# Altium schematic symbol library dungvh03-CERN_Logic.SchLib: 486 symbols (part 33 of 54)
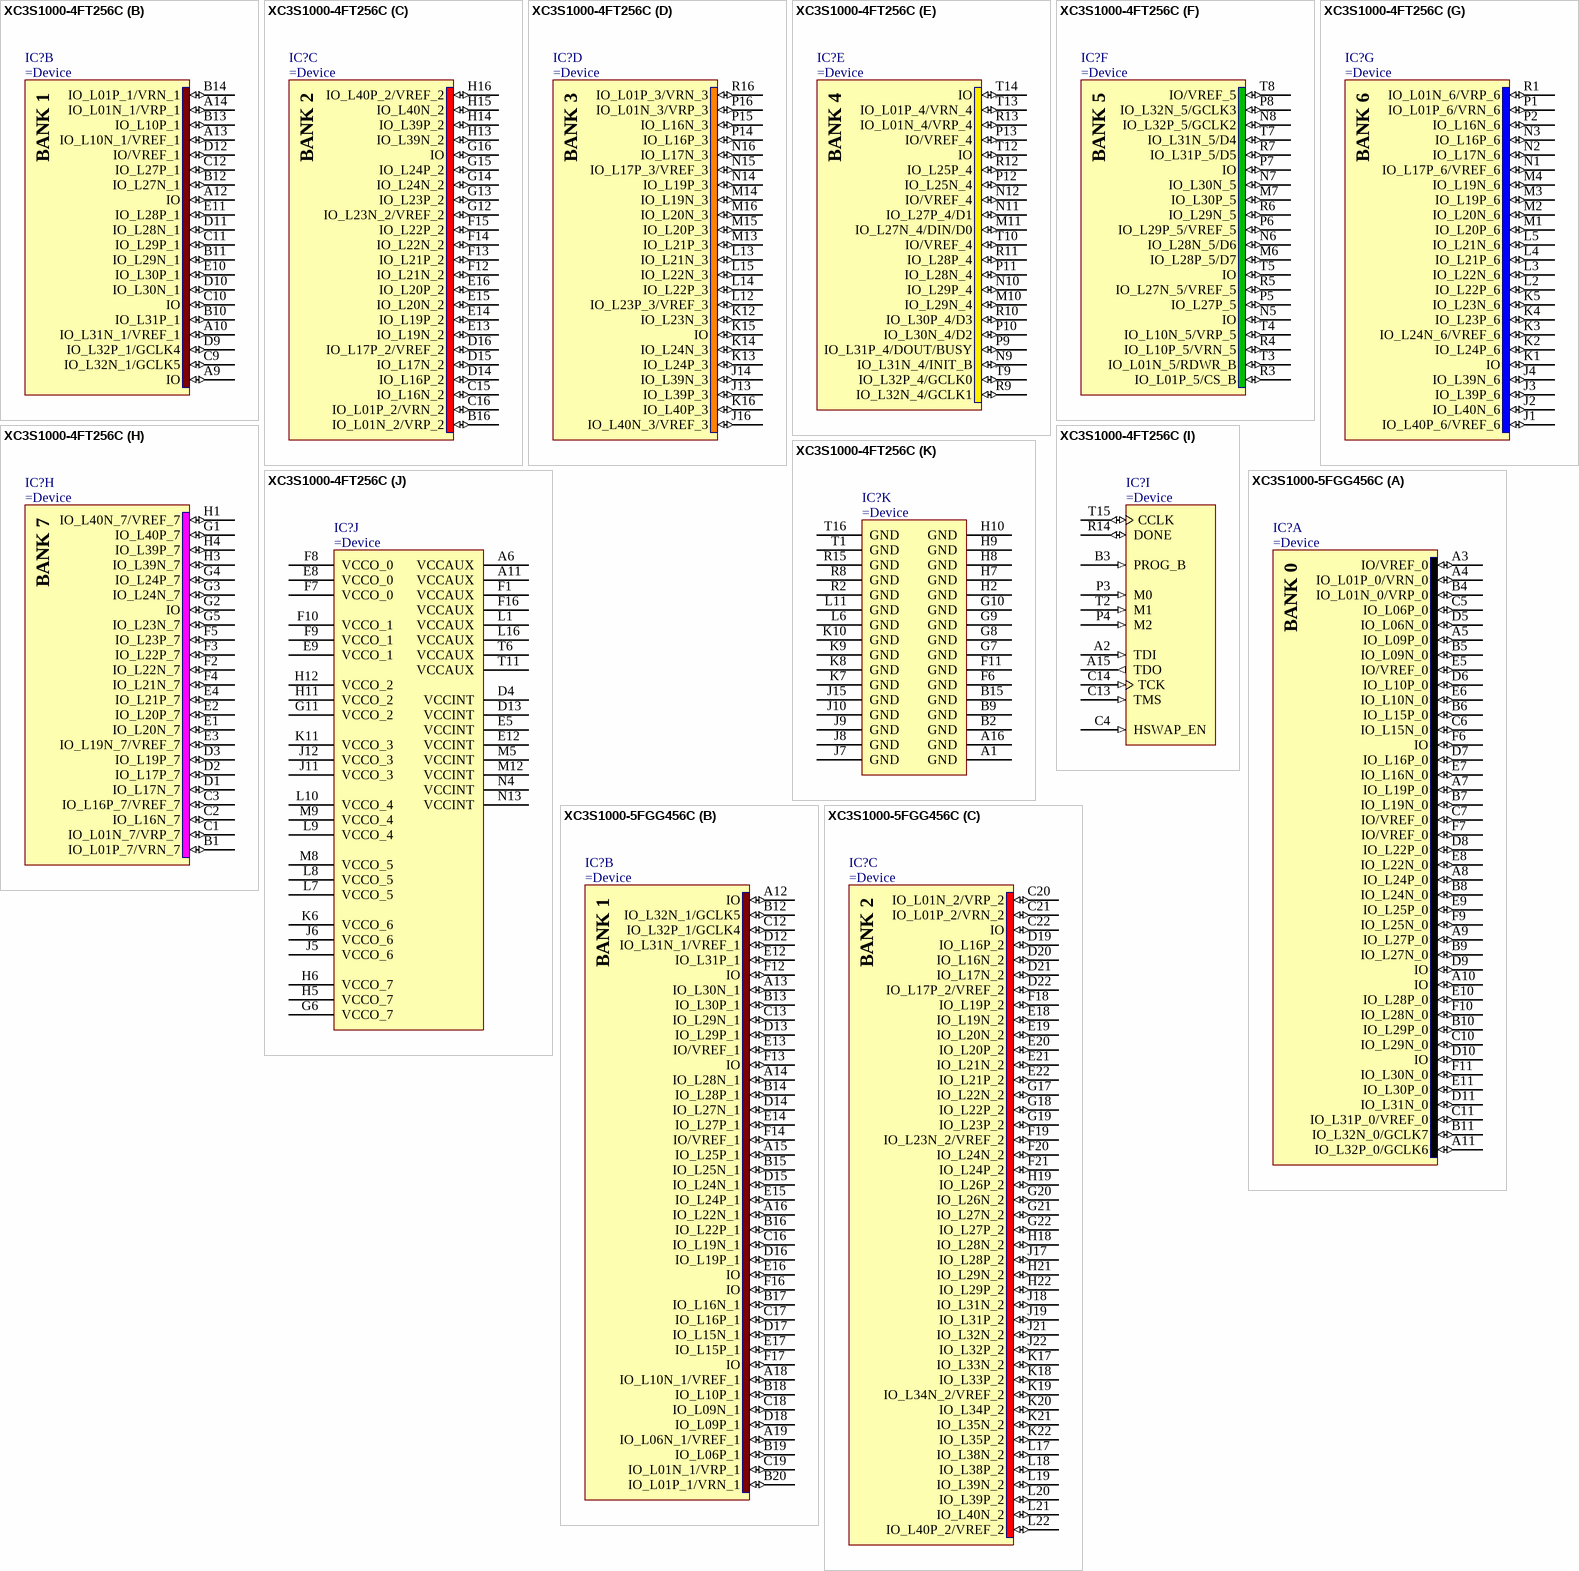
[diagram p293: symbols XC3S1000-4FT256C to XC3S1000-5FGG456C]

## XC3S1000-4FT256C
designator IC?
Spartan-3 1.2V FPGA, 173 User I/Os, 256-Ball FTBGA, Standard Performance, Commercial Grade
part A pins: A3 IO/VREF_0 (io), A4 IO_L01P_0/VRN_0 (io), A5 IO (io), A7 IO (io), A8 IO_L32P_0/GCLK6 (io), B4 IO_L01N_0/VRP_0 (io), B5 IO_L25P_0 (io), B6 IO_L28P_0 (io), B7 IO_L30P_0 (io), B8 IO_L32N_0/GCLK7 (io), C5 IO_L25N_0 (io), C6 IO_L28N_0 (io), C7 IO_L30N_0 (io), C8 IO_L31P_0/VREF_0 (io), D5 IO/VREF_0 (io), D6 IO_L27P_0 (io), D7 IO_L29P_0 (io), D8 IO_L31N_0 (io), E6 IO_L27N_0 (io), E7 IO_L29N_0 (io)
part B pins: A9 IO (io), A10 IO_L31N_1/VREF_1 (io), A12 IO (io), A13 IO_L10N_1/VREF_1 (io), A14 IO_L01N_1/VRP_1 (io), B10 IO_L31P_1 (io), B11 IO_L29N_1 (io), B12 IO_L27N_1 (io), B13 IO_L10P_1 (io), B14 IO_L01P_1/VRN_1 (io), C9 IO_L32N_1/GCLK5 (io), C10 IO (io), C11 IO_L29P_1 (io), C12 IO_L27P_1 (io), D9 IO_L32P_1/GCLK4 (io), D10 IO_L30N_1 (io), D11 IO_L28N_1 (io), D12 IO/VREF_1 (io), E10 IO_L30P_1 (io), E11 IO_L28P_1 (io)
part C pins: B16 IO_L01N_2/VRP_2 (io), C15 IO_L16N_2 (io), C16 IO_L01P_2/VRN_2 (io), D14 IO_L16P_2 (io), D15 IO_L17N_2 (io), D16 IO_L17P_2/VREF_2 (io), E13 IO_L19N_2 (io), E14 IO_L19P_2 (io), E15 IO_L20N_2 (io), E16 IO_L20P_2 (io), F12 IO_L21N_2 (io), F13 IO_L21P_2 (io), F14 IO_L22N_2 (io), F15 IO_L22P_2 (io), G12 IO_L23N_2/VREF_2 (io), G13 IO_L23P_2 (io), G14 IO_L24N_2 (io), G15 IO_L24P_2 (io), G16 IO (io), H13 IO_L39N_2 (io), H14 IO_L39P_2 (io), H15 IO_L40N_2 (io), H16 IO_L40P_2/VREF_2 (io)
part D pins: J13 IO_L39P_3 (io), J14 IO_L39N_3 (io), J16 IO_L40N_3/VREF_3 (io), K12 IO_L23N_3 (io), K13 IO_L24P_3 (io), K14 IO_L24N_3 (io), K15 IO (io), K16 IO_L40P_3 (io), L12 IO_L23P_3/VREF_3 (io), L13 IO_L21N_3 (io), L14 IO_L22P_3 (io), L15 IO_L22N_3 (io), M13 IO_L21P_3 (io), M14 IO_L19N_3 (io), M15 IO_L20P_3 (io), M16 IO_L20N_3 (io), N14 IO_L19P_3 (io), N15 IO_L17P_3/VREF_3 (io), N16 IO_L17N_3 (io), P14 IO_L16P_3 (io), P15 IO_L16N_3 (io), P16 IO_L01N_3/VRP_3 (io), R16 IO_L01P_3/VRN_3 (io)
part E pins: M10 IO_L29N_4 (io), M11 IO_L27N_4/DIN/D0 (io), N9 IO_L31N_4/INIT_B (io), N10 IO_L29P_4 (io), N11 IO_L27P_4/D1 (io), N12 IO/VREF_4 (io), P9 IO_L31P_4/DOUT/BUSY (io), P10 IO_L30N_4/D2 (io), P11 IO_L28N_4 (io), P12 IO_L25N_4 (io), P13 IO/VREF_4 (io), R9 IO_L32N_4/GCLK1 (io), R10 IO_L30P_4/D3 (io), R11 IO_L28P_4 (io), R12 IO_L25P_4 (io), R13 IO_L01N_4/VRP_4 (io), T9 IO_L32P_4/GCLK0 (io), T10 IO/VREF_4 (io), T12 IO (io), T13 IO_L01P_4/VRN_4 (io), T14 IO (io)
part F pins: M6 IO_L28P_5/D7 (io), M7 IO_L30P_5 (io), N5 IO (io), N6 IO_L28N_5/D6 (io), N7 IO_L30N_5 (io), N8 IO_L32P_5/GCLK2 (io), P5 IO_L27P_5 (io), P6 IO_L29P_5/VREF_5 (io), P7 IO (io), P8 IO_L32N_5/GCLK3 (io), R3 IO_L01P_5/CS_B (io), R4 IO_L10P_5/VRN_5 (io), R5 IO_L27N_5/VREF_5 (io), R6 IO_L29N_5 (io), R7 IO_L31P_5/D5 (io), T3 IO_L01N_5/RDWR_B (io), T4 IO_L10N_5/VRP_5 (io), T5 IO (io), T7 IO_L31N_5/D4 (io), T8 IO/VREF_5 (io)
part G pins: J1 IO_L40P_6/VREF_6 (io), J2 IO_L40N_6 (io), J3 IO_L39P_6 (io), J4 IO_L39N_6 (io), K1 IO (io), K2 IO_L24P_6 (io), K3 IO_L24N_6/VREF_6 (io), K4 IO_L23P_6 (io), K5 IO_L23N_6 (io), L2 IO_L22P_6 (io), L3 IO_L22N_6 (io), L4 IO_L21P_6 (io), L5 IO_L21N_6 (io), M1 IO_L20P_6 (io), M2 IO_L20N_6 (io), M3 IO_L19P_6 (io), M4 IO_L19N_6 (io), N1 IO_L17P_6/VREF_6 (io), N2 IO_L17N_6 (io), N3 IO_L16P_6 (io), P1 IO_L01P_6/VRN_6 (io), P2 IO_L16N_6 (io), R1 IO_L01N_6/VRP_6 (io)
part H pins: B1 IO_L01P_7/VRN_7 (io), C1 IO_L01N_7/VRP_7 (io), C2 IO_L16N_7 (io), C3 IO_L16P_7/VREF_7 (io), D1 IO_L17N_7 (io), D2 IO_L17P_7 (io), D3 IO_L19P_7 (io), E1 IO_L20N_7 (io), E2 IO_L20P_7 (io), E3 IO_L19N_7/VREF_7 (io), E4 IO_L21P_7 (io), F2 IO_L22N_7 (io), F3 IO_L22P_7 (io), F4 IO_L21N_7 (io), F5 IO_L23P_7 (io), G1 IO_L40P_7 (io), G2 IO (io), G3 IO_L24N_7 (io), G4 IO_L24P_7 (io), G5 IO_L23N_7 (io), H1 IO_L40N_7/VREF_7 (io), H3 IO_L39N_7 (io), H4 IO_L39P_7 (io)
part I pins: A2 TDI (in), A15 TDO (out), B3 PROG_B (in), C4 HSWAP_EN (in), C13 TMS (in), C14 TCK (in), P3 M0 (in), P4 M2 (in), R14 DONE (io), T2 M1 (in), T15 CCLK (io)
part J pins: A6 VCCAUX (power), A11 VCCAUX (power), D4 VCCINT (power), D13 VCCINT (power), E5 VCCINT (power), E8 VCCO_0 (power), E9 VCCO_1 (power), E12 VCCINT (power), F1 VCCAUX (power), F7 VCCO_0 (power), F8 VCCO_0 (power), F9 VCCO_1 (power), F10 VCCO_1 (power), F16 VCCAUX (power), G6 VCCO_7 (power), G11 VCCO_2 (power), H5 VCCO_7 (power), H6 VCCO_7 (power), H11 VCCO_2 (power), H12 VCCO_2 (power), J5 VCCO_6 (power), J6 VCCO_6 (power), J11 VCCO_3 (power), J12 VCCO_3 (power), K6 VCCO_6 (power), K11 VCCO_3 (power), L1 VCCAUX (power), L7 VCCO_5 (power), L8 VCCO_5 (power), L9 VCCO_4 (power), L10 VCCO_4 (power), L16 VCCAUX (power), M5 VCCINT (power), M8 VCCO_5 (power), M9 VCCO_4 (power), M12 VCCINT (power), N4 VCCINT (power), N13 VCCINT (power), T6 VCCAUX (power), T11 VCCAUX (power)
part K pins: A1 GND (power), A16 GND (power), B2 GND (power), B9 GND (power), B15 GND (power), F6 GND (power), F11 GND (power), G7 GND (power), G8 GND (power), G9 GND (power), G10 GND (power), H2 GND (power), H7 GND (power), H8 GND (power), H9 GND (power), H10 GND (power), J7 GND (power), J8 GND (power), J9 GND (power), J10 GND (power), J15 GND (power), K7 GND (power), K8 GND (power), K9 GND (power), K10 GND (power), L6 GND (power), L11 GND (power), R2 GND (power), R8 GND (power), R15 GND (power), T1 GND (power), T16 GND (power)
part A text: BANK 0
part B text: BANK 1
part C text: BANK 2
part D text: BANK 3
part E text: BANK 4
part F text: BANK 5
part G text: BANK 6
part H text: BANK 7

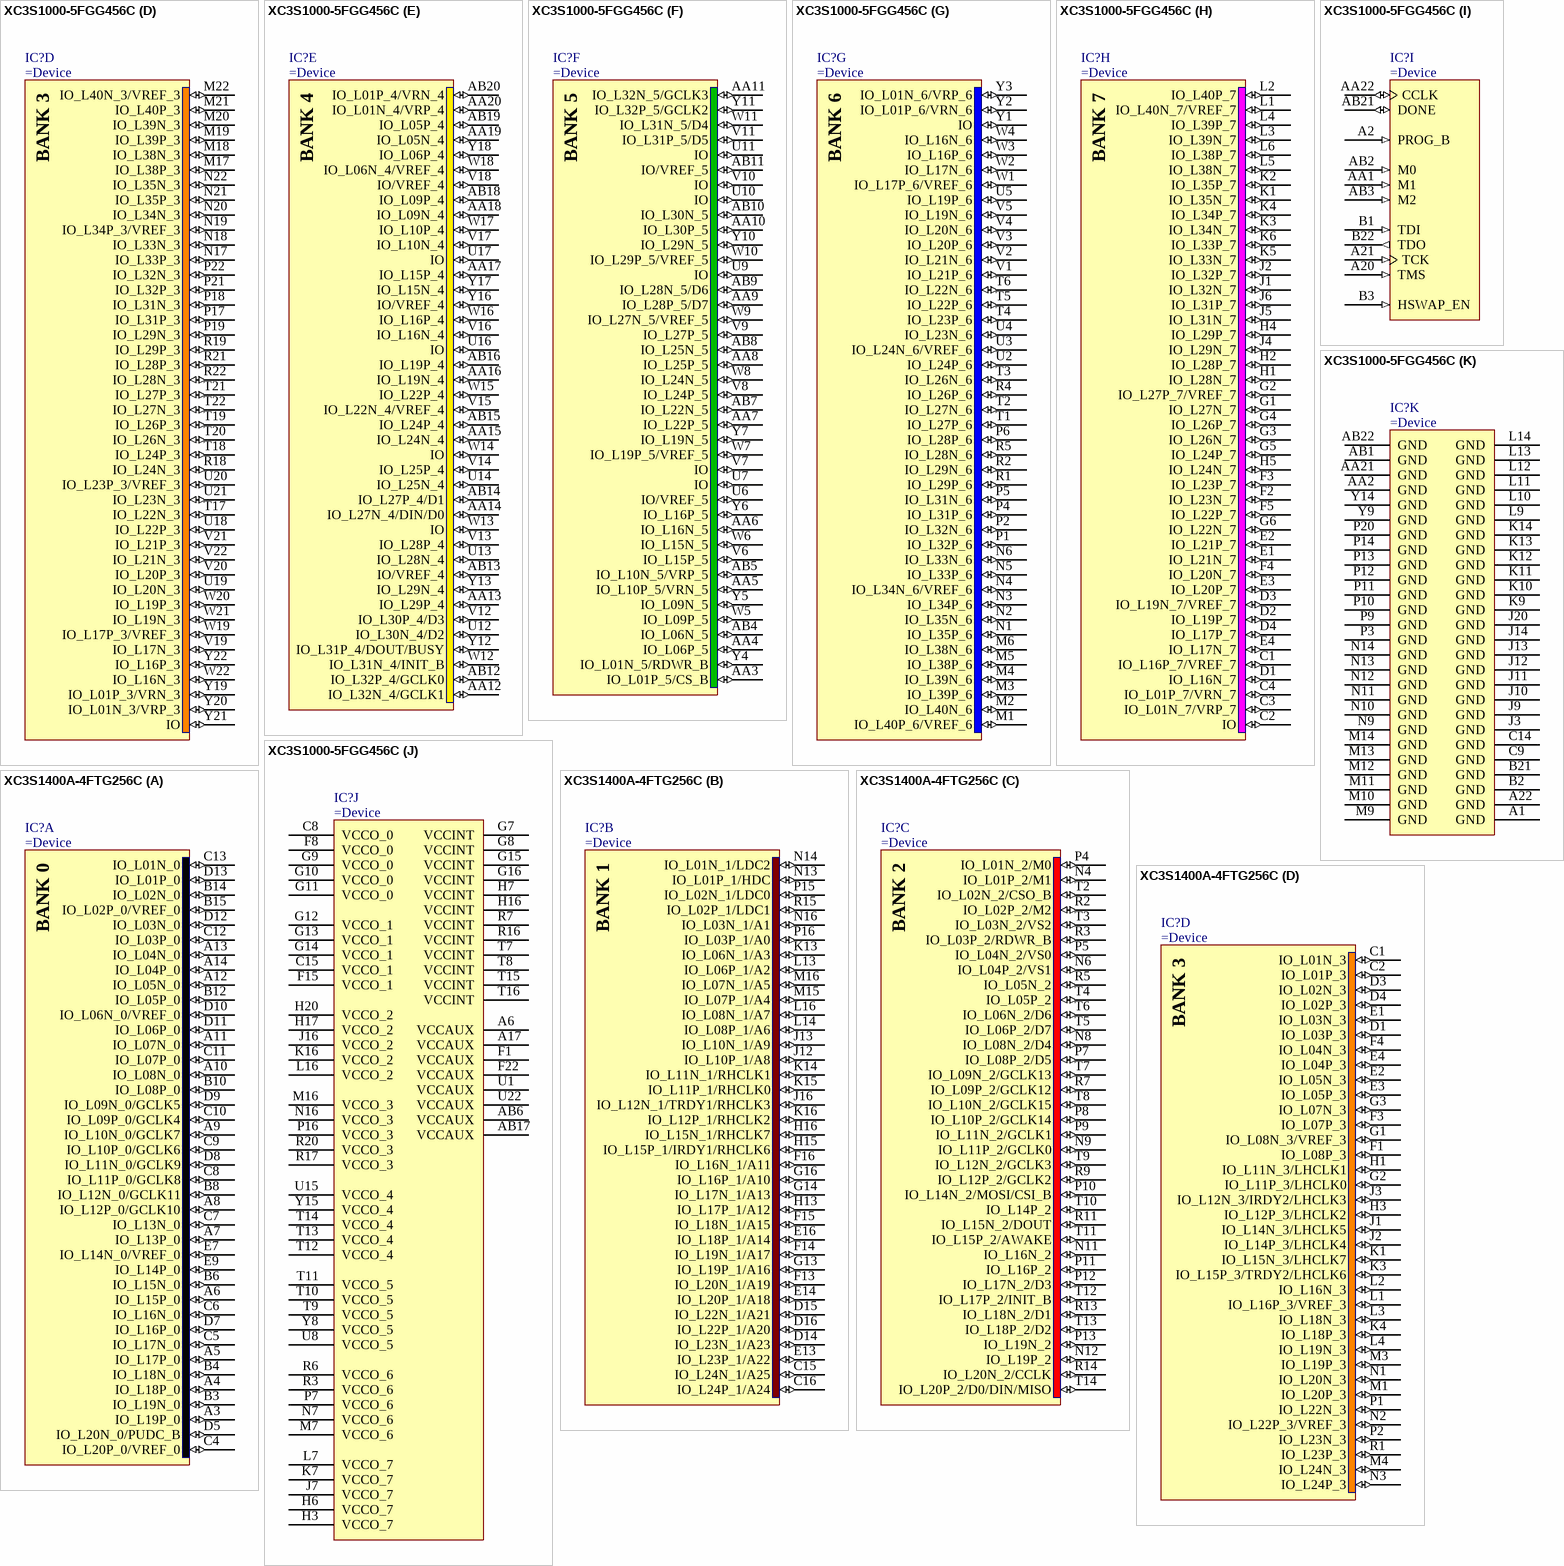
[diagram p142: symbols XC3S1000-5FGG456C to XC3S1400A-4FTG256C]

## XC3S1000-5FGG456C
designator IC?
Spartan-3 1.2V FPGA, 333 User I/Os, 456-Ball FBGA, High Performance, Commercial Grade
part A pins: A3 IO/VREF_0 (io), A4 IO_L01P_0/VRN_0 (io), A5 IO_L09P_0 (io), A7 IO_L19P_0 (io), A8 IO_L24P_0 (io), A9 IO_L27P_0 (io), A10 IO (io), A11 IO_L32P_0/GCLK6 (io), B4 IO_L01N_0/VRP_0 (io), B5 IO_L09N_0 (io), B6 IO_L15P_0 (io), B7 IO_L19N_0 (io), B8 IO_L24N_0 (io), B9 IO_L27N_0 (io), B10 IO_L29P_0 (io), B11 IO_L32N_0/GCLK7 (io), C5 IO_L06P_0 (io), C6 IO_L15N_0 (io), C7 IO/VREF_0 (io), C10 IO_L29N_0 (io), C11 IO_L31P_0/VREF_0 (io), D5 IO_L06N_0 (io), D6 IO_L10P_0 (io), D7 IO_L16P_0 (io), D8 IO_L22P_0 (io), D9 IO (io), D10 IO (io), D11 IO_L31N_0 (io), E5 IO/VREF_0 (io), E6 IO_L10N_0 (io), E7 IO_L16N_0 (io), E8 IO_L22N_0 (io), E9 IO_L25P_0 (io), E10 IO_L28P_0 (io), E11 IO_L30P_0 (io), F6 IO (io), F7 IO/VREF_0 (io), F9 IO_L25N_0 (io), F10 IO_L28N_0 (io), F11 IO_L30N_0 (io)
part B pins: A12 IO (io), A13 IO_L30N_1 (io), A14 IO_L28N_1 (io), A15 IO_L25P_1 (io), A16 IO_L22N_1 (io), A18 IO_L10N_1/VREF_1 (io), A19 IO_L06N_1/VREF_1 (io), B12 IO_L32N_1/GCLK5 (io), B13 IO_L30P_1 (io), B14 IO_L28P_1 (io), B15 IO_L25N_1 (io), B16 IO_L22P_1 (io), B17 IO_L16N_1 (io), B18 IO_L10P_1 (io), B19 IO_L06P_1 (io), B20 IO_L01P_1/VRN_1 (io), C12 IO_L32P_1/GCLK4 (io), C13 IO_L29N_1 (io), C16 IO_L19N_1 (io), C17 IO_L16P_1 (io), C18 IO_L09N_1 (io), C19 IO_L01N_1/VRP_1 (io), D12 IO_L31N_1/VREF_1 (io), D13 IO_L29P_1 (io), D14 IO_L27N_1 (io), D15 IO_L24N_1 (io), D16 IO_L19P_1 (io), D17 IO_L15N_1 (io), D18 IO_L09P_1 (io), E12 IO_L31P_1 (io), E13 IO/VREF_1 (io), E14 IO_L27P_1 (io), E15 IO_L24P_1 (io), E16 IO (io), E17 IO_L15P_1 (io), F12 IO (io), F13 IO (io), F14 IO/VREF_1 (io), F16 IO (io), F17 IO (io)
part C pins: C20 IO_L01N_2/VRP_2 (io), C21 IO_L01P_2/VRN_2 (io), C22 IO (io), D19 IO_L16P_2 (io), D20 IO_L16N_2 (io), D21 IO_L17N_2 (io), D22 IO_L17P_2/VREF_2 (io), E18 IO_L19N_2 (io), E19 IO_L20N_2 (io), E20 IO_L20P_2 (io), E21 IO_L21N_2 (io), E22 IO_L21P_2 (io), F18 IO_L19P_2 (io), F19 IO_L23N_2/VREF_2 (io), F20 IO_L24N_2 (io), F21 IO_L24P_2 (io), G17 IO_L22N_2 (io), G18 IO_L22P_2 (io), G19 IO_L23P_2 (io), G20 IO_L26N_2 (io), G21 IO_L27N_2 (io), G22 IO_L27P_2 (io), H18 IO_L28N_2 (io), H19 IO_L26P_2 (io), H21 IO_L29N_2 (io), H22 IO_L29P_2 (io), J17 IO_L28P_2 (io), J18 IO_L31N_2 (io), J19 IO_L31P_2 (io), J21 IO_L32N_2 (io), J22 IO_L32P_2 (io), K17 IO_L33N_2 (io), K18 IO_L33P_2 (io), K19 IO_L34N_2/VREF_2 (io), K20 IO_L34P_2 (io), K21 IO_L35N_2 (io), K22 IO_L35P_2 (io), L17 IO_L38N_2 (io), L18 IO_L38P_2 (io), L19 IO_L39N_2 (io), L20 IO_L39P_2 (io), L21 IO_L40N_2 (io), L22 IO_L40P_2/VREF_2 (io)
part D pins: M17 IO_L38P_3 (io), M18 IO_L38N_3 (io), M19 IO_L39P_3 (io), M20 IO_L39N_3 (io), M21 IO_L40P_3 (io), M22 IO_L40N_3/VREF_3 (io), N17 IO_L33P_3 (io), N18 IO_L33N_3 (io), N19 IO_L34P_3/VREF_3 (io), N20 IO_L34N_3 (io), N21 IO_L35P_3 (io), N22 IO_L35N_3 (io), P17 IO_L31P_3 (io), P18 IO_L31N_3 (io), P19 IO_L29N_3 (io), P21 IO_L32P_3 (io), P22 IO_L32N_3 (io), R18 IO_L24N_3 (io), R19 IO_L29P_3 (io), R21 IO_L28P_3 (io), R22 IO_L28N_3 (io), T17 IO_L22N_3 (io), T18 IO_L24P_3 (io), T19 IO_L26P_3 (io), T20 IO_L26N_3 (io), T21 IO_L27P_3 (io), T22 IO_L27N_3 (io), U18 IO_L22P_3 (io), U19 IO_L20N_3 (io), U20 IO_L23P_3/VREF_3 (io), U21 IO_L23N_3 (io), V19 IO_L17N_3 (io), V20 IO_L20P_3 (io), V21 IO_L21P_3 (io), V22 IO_L21N_3 (io), W19 IO_L17P_3/VREF_3 (io), W20 IO_L19P_3 (io), W21 IO_L19N_3 (io), W22 IO_L16N_3 (io), Y19 IO_L01P_3/VRN_3 (io), Y20 IO_L01N_3/VRP_3 (io), Y21 IO (io), Y22 IO_L16P_3 (io)
part E pins: AA12 IO_L32N_4/GCLK1 (io), AA13 IO_L29P_4 (io), AA14 IO_L27N_4/DIN/D0 (io), AA15 IO_L24N_4 (io), AA16 IO_L19N_4 (io), AA17 IO_L15P_4 (io), AA18 IO_L09N_4 (io), AA19 IO_L05N_4 (io), AA20 IO_L01N_4/VRP_4 (io), AB12 IO_L32P_4/GCLK0 (io), AB13 IO/VREF_4 (io), AB14 IO_L27P_4/D1 (io), AB15 IO_L24P_4 (io), AB16 IO_L19P_4 (io), AB18 IO_L09P_4 (io), AB19 IO_L05P_4 (io), AB20 IO_L01P_4/VRN_4 (io), U12 IO_L30N_4/D2 (io), U13 IO_L28N_4 (io), U14 IO_L25N_4 (io), U16 IO (io), U17 IO (io), V12 IO_L30P_4/D3 (io), V13 IO_L28P_4 (io), V14 IO_L25P_4 (io), V15 IO_L22N_4/VREF_4 (io), V16 IO_L16N_4 (io), V17 IO_L10N_4 (io), V18 IO/VREF_4 (io), W12 IO_L31N_4/INIT_B (io), W13 IO (io), W14 IO (io), W15 IO_L22P_4 (io), W16 IO_L16P_4 (io), W17 IO_L10P_4 (io), W18 IO_L06N_4/VREF_4 (io), Y12 IO_L31P_4/DOUT/BUSY (io), Y13 IO_L29N_4 (io), Y16 IO/VREF_4 (io), Y17 IO_L15N_4 (io), Y18 IO_L06P_4 (io)
part F pins: AA3 IO_L01P_5/CS_B (io), AA4 IO_L06P_5 (io), AA5 IO_L10P_5/VRN_5 (io), AA6 IO_L16N_5 (io), AA7 IO_L22P_5 (io), AA8 IO_L25P_5 (io), AA9 IO_L28P_5/D7 (io), AA10 IO_L30P_5 (io), AA11 IO_L32N_5/GCLK3 (io), AB4 IO_L06N_5 (io), AB5 IO_L10N_5/VRP_5 (io), AB7 IO_L22N_5 (io), AB8 IO_L25N_5 (io), AB9 IO_L28N_5/D6 (io), AB10 IO_L30N_5 (io), AB11 IO/VREF_5 (io), U6 IO/VREF_5 (io), U7 IO (io), U9 IO (io), U10 IO (io), U11 IO (io), V6 IO_L15P_5 (io), V7 IO (io), V8 IO_L24P_5 (io), V9 IO_L27P_5 (io), V10 IO (io), V11 IO_L31P_5/D5 (io), W5 IO_L09P_5 (io), W6 IO_L15N_5 (io), W7 IO_L19P_5/VREF_5 (io), W8 IO_L24N_5 (io), W9 IO_L27N_5/VREF_5 (io), W10 IO_L29P_5/VREF_5 (io), W11 IO_L31N_5/D4 (io), Y4 IO_L01N_5/RDWR_B (io), Y5 IO_L09N_5 (io), Y6 IO_L16P_5 (io), Y7 IO_L19N_5 (io), Y10 IO_L29N_5 (io), Y11 IO_L32P_5/GCLK2 (io)
part G pins: M1 IO_L40P_6/VREF_6 (io), M2 IO_L40N_6 (io), M3 IO_L39P_6 (io), M4 IO_L39N_6 (io), M5 IO_L38P_6 (io), M6 IO_L38N_6 (io), N1 IO_L35P_6 (io), N2 IO_L35N_6 (io), N3 IO_L34P_6 (io), N4 IO_L34N_6/VREF_6 (io), N5 IO_L33P_6 (io), N6 IO_L33N_6 (io), P1 IO_L32P_6 (io), P2 IO_L32N_6 (io), P4 IO_L31P_6 (io), P5 IO_L31N_6 (io), P6 IO_L28P_6 (io), R1 IO_L29P_6 (io), R2 IO_L29N_6 (io), R4 IO_L26P_6 (io), R5 IO_L28N_6 (io), T1 IO_L27P_6 (io), T2 IO_L27N_6 (io), T3 IO_L26N_6 (io), T4 IO_L23P_6 (io), T5 IO_L22P_6 (io), T6 IO_L22N_6 (io), U2 IO_L24P_6 (io), U3 IO_L24N_6/VREF_6 (io), U4 IO_L23N_6 (io), U5 IO_L19P_6 (io), V1 IO_L21P_6 (io), V2 IO_L21N_6 (io), V3 IO_L20P_6 (io), V4 IO_L20N_6 (io), V5 IO_L19N_6 (io), W1 IO_L17P_6/VREF_6 (io), W2 IO_L17N_6 (io), W3 IO_L16P_6 (io), W4 IO_L16N_6 (io), Y1 IO (io), Y2 IO_L01P_6/VRN_6 (io), Y3 IO_L01N_6/VRP_6 (io)
part H pins: C1 IO_L16P_7/VREF_7 (io), C2 IO (io), C3 IO_L01N_7/VRP_7 (io), C4 IO_L01P_7/VRN_7 (io), D1 IO_L16N_7 (io), D2 IO_L19P_7 (io), D3 IO_L19N_7/VREF_7 (io), D4 IO_L17P_7 (io), E1 IO_L21N_7 (io), E2 IO_L21P_7 (io), E3 IO_L20P_7 (io), E4 IO_L17N_7 (io), F2 IO_L23N_7 (io), F3 IO_L23P_7 (io), F4 IO_L20N_7 (io), F5 IO_L22P_7 (io), G1 IO_L27N_7 (io), G2 IO_L27P_7/VREF_7 (io), G3 IO_L26N_7 (io), G4 IO_L26P_7 (io), G5 IO_L24P_7 (io), G6 IO_L22N_7 (io), H1 IO_L28N_7 (io), H2 IO_L28P_7 (io), H4 IO_L29P_7 (io), H5 IO_L24N_7 (io), J1 IO_L32N_7 (io), J2 IO_L32P_7 (io), J4 IO_L29N_7 (io), J5 IO_L31N_7 (io), J6 IO_L31P_7 (io), K1 IO_L35N_7 (io), K2 IO_L35P_7 (io), K3 IO_L34N_7 (io), K4 IO_L34P_7 (io), K5 IO_L33N_7 (io), K6 IO_L33P_7 (io), L1 IO_L40N_7/VREF_7 (io), L2 IO_L40P_7 (io), L3 IO_L39N_7 (io), L4 IO_L39P_7 (io), L5 IO_L38N_7 (io), L6 IO_L38P_7 (io)
part I pins: A2 PROG_B (in), A20 TMS (in), A21 TCK (in), AA1 M1 (in), AA22 CCLK (io), AB2 M0 (in), AB3 M2 (in), AB21 DONE (io), B1 TDI (in), B3 HSWAP_EN (in), B22 TDO (out)
part J pins: A6 VCCAUX (power), A17 VCCAUX (power), AB6 VCCAUX (power), AB17 VCCAUX (power), C8 VCCO_0 (power), C15 VCCO_1 (power), F1 VCCAUX (power), F8 VCCO_0 (power), F15 VCCO_1 (power), F22 VCCAUX (power), G7 VCCINT (power), G8 VCCINT (power), G9 VCCO_0 (power), G10 VCCO_0 (power), G11 VCCO_0 (power), G12 VCCO_1 (power), G13 VCCO_1 (power), G14 VCCO_1 (power), G15 VCCINT (power), G16 VCCINT (power), H3 VCCO_7 (power), H6 VCCO_7 (power), H7 VCCINT (power), H16 VCCINT (power), H17 VCCO_2 (power), H20 VCCO_2 (power), J7 VCCO_7 (power), J16 VCCO_2 (power), K7 VCCO_7 (power), K16 VCCO_2 (power), L7 VCCO_7 (power), L16 VCCO_2 (power), M7 VCCO_6 (power), M16 VCCO_3 (power), N7 VCCO_6 (power), N16 VCCO_3 (power), P7 VCCO_6 (power), P16 VCCO_3 (power), R3 VCCO_6 (power), R6 VCCO_6 (power), R7 VCCINT (power), R16 VCCINT (power), R17 VCCO_3 (power), R20 VCCO_3 (power), T7 VCCINT (power), T8 VCCINT (power), T9 VCCO_5 (power), T10 VCCO_5 (power), T11 VCCO_5 (power), T12 VCCO_4 (power), T13 VCCO_4 (power), T14 VCCO_4 (power), T15 VCCINT (power), T16 VCCINT (power), U1 VCCAUX (power), U8 VCCO_5 (power), U15 VCCO_4 (power), U22 VCCAUX (power), Y8 VCCO_5 (power), Y15 VCCO_4 (power)
part K pins: A1 GND (power), A22 GND (power), AA2 GND (power), AA21 GND (power), AB1 GND (power), AB22 GND (power), B2 GND (power), B21 GND (power), C9 GND (power), C14 GND (power), J3 GND (power), J9 GND (power), J10 GND (power), J11 GND (power), J12 GND (power), J13 GND (power), J14 GND (power), J20 GND (power), K9 GND (power), K10 GND (power), K11 GND (power), K12 GND (power), K13 GND (power), K14 GND (power), L9 GND (power), L10 GND (power), L11 GND (power), L12 GND (power), L13 GND (power), L14 GND (power), M9 GND (power), M10 GND (power), M11 GND (power), M12 GND (power), M13 GND (power), M14 GND (power), N9 GND (power), N10 GND (power), N11 GND (power), N12 GND (power), N13 GND (power), N14 GND (power), P3 GND (power), P9 GND (power), P10 GND (power), P11 GND (power), P12 GND (power), P13 GND (power), P14 GND (power), P20 GND (power), Y9 GND (power), Y14 GND (power)
part A text: BANK 0
part B text: BANK 1
part C text: BANK 2
part D text: BANK 3
part E text: BANK 4
part F text: BANK 5
part G text: BANK 6
part H text: BANK 7

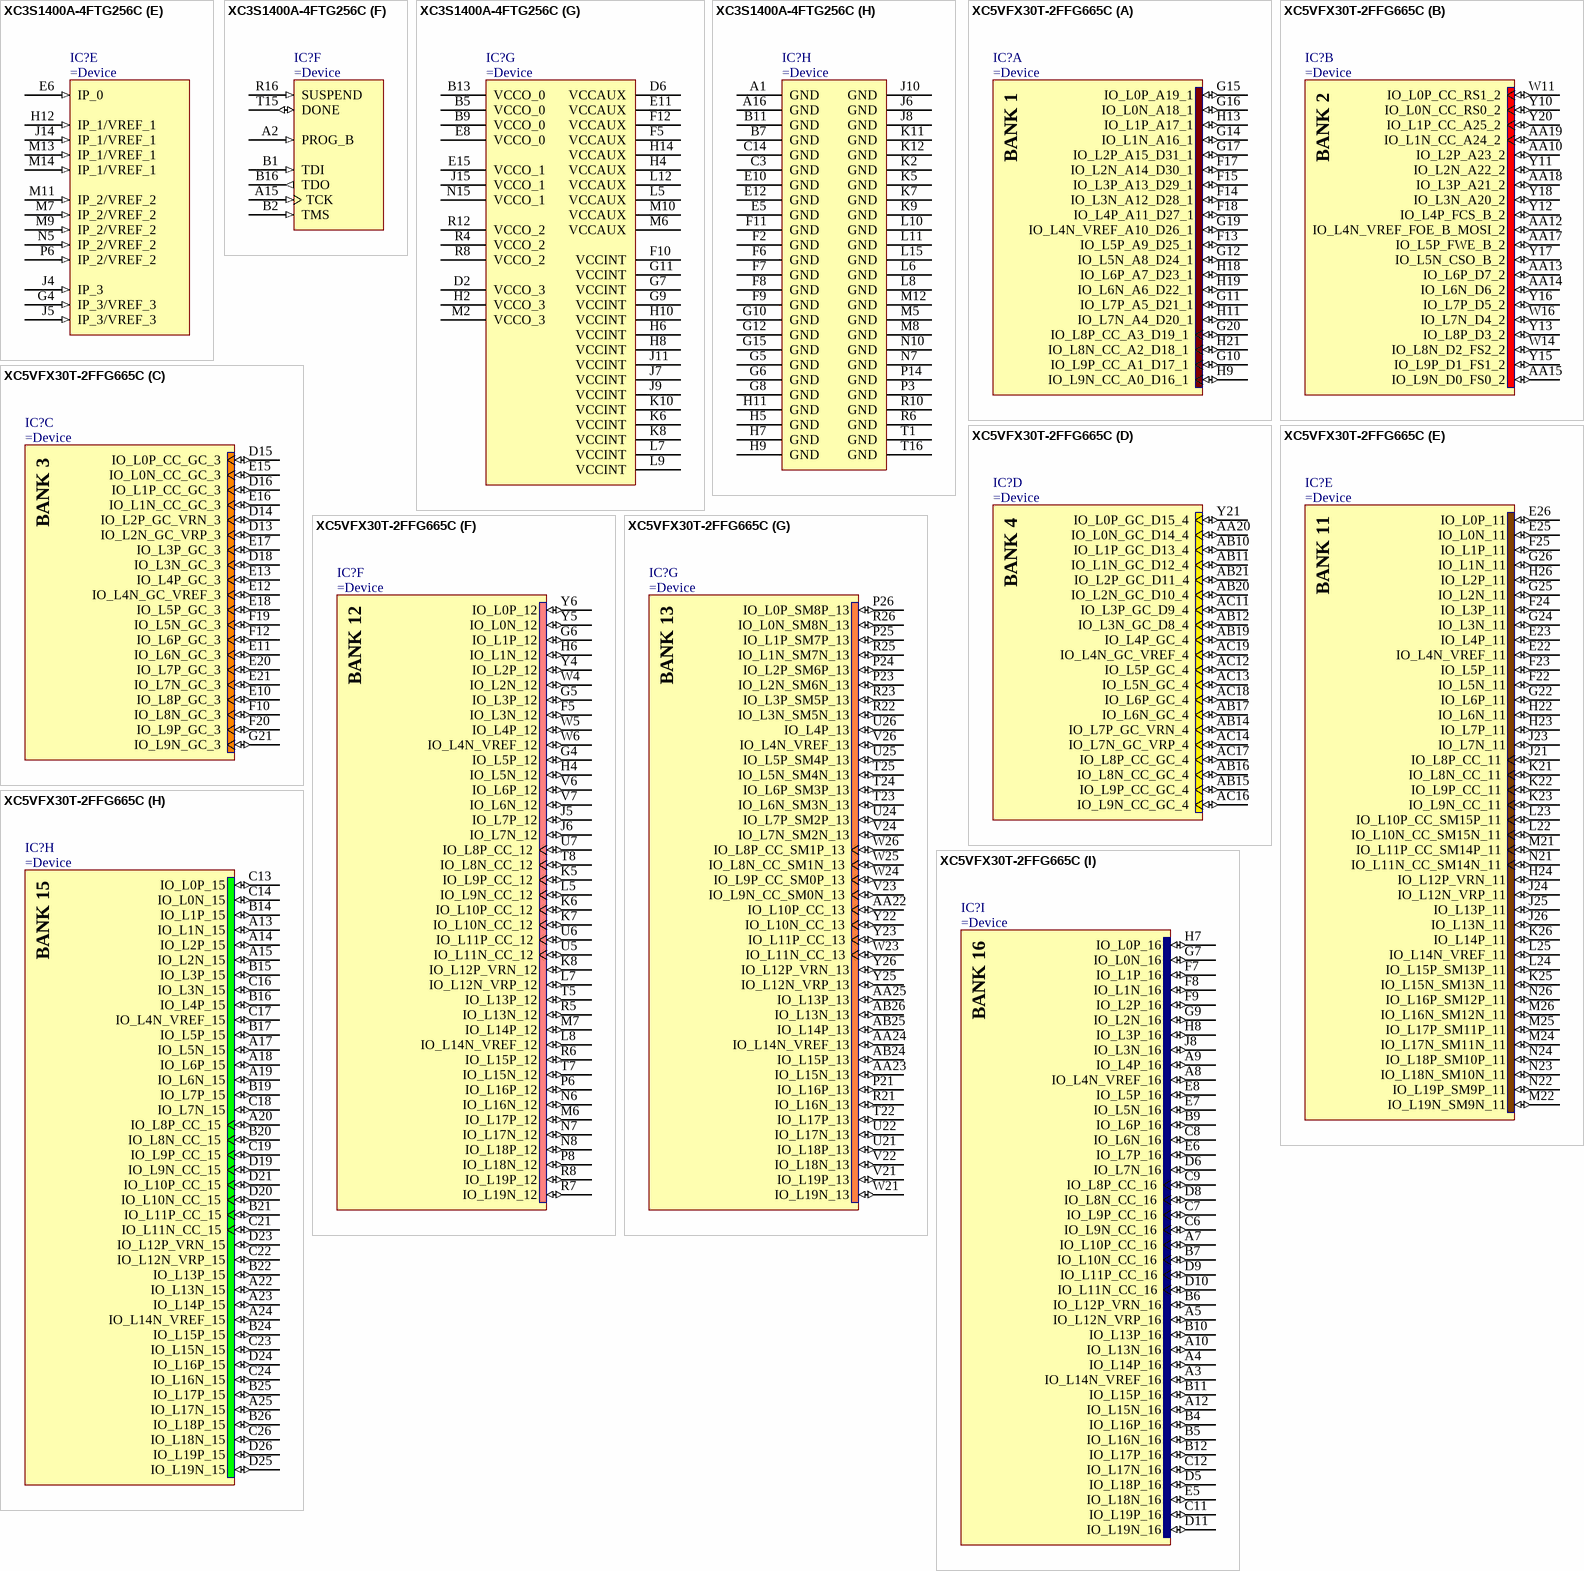
[diagram p143: symbols XC3S1400A-4FTG256C to XC5VFX30T-2FFG665C]

## XC3S1400A-4FTG256C
designator IC?
Spartan-3A I/O Optimized FPGA, 161 User I/Os, 256-Ball FTBGA, Standard Performance, Commercial Grade, Pb-Free
part A pins: A3 IO_L19P_0 (io), A4 IO_L18P_0 (io), A5 IO_L17P_0 (io), A6 IO_L15P_0 (io), A7 IO_L13P_0 (io), A8 IO_L12P_0/GCLK10 (io), A9 IO_L10N_0/GCLK7 (io), A10 IO_L08N_0 (io), A11 IO_L07N_0 (io), A12 IO_L05N_0 (io), A13 IO_L04N_0 (io), A14 IO_L04P_0 (io), B3 IO_L19N_0 (io), B4 IO_L18N_0 (io), B6 IO_L15N_0 (io), B8 IO_L12N_0/GCLK11 (io), B10 IO_L08P_0 (io), B12 IO_L05P_0 (io), B14 IO_L02N_0 (io), B15 IO_L02P_0/VREF_0 (io), C4 IO_L20P_0/VREF_0 (io), C5 IO_L17N_0 (io), C6 IO_L16N_0 (io), C7 IO_L13N_0 (io), C8 IO_L11P_0/GCLK8 (io), C9 IO_L10P_0/GCLK6 (io), C10 IO_L09P_0/GCLK4 (io), C11 IO_L07P_0 (io), C12 IO_L03P_0 (io), C13 IO_L01N_0 (io), D5 IO_L20N_0/PUDC_B (io), D7 IO_L16P_0 (io), D8 IO_L11N_0/GCLK9 (io), D9 IO_L09N_0/GCLK5 (io), D10 IO_L06N_0/VREF_0 (io), D11 IO_L06P_0 (io), D12 IO_L03N_0 (io), D13 IO_L01P_0 (io), E7 IO_L14N_0/VREF_0 (io), E9 IO_L14P_0 (io)
part B pins: C15 IO_L24N_1/A25 (io), C16 IO_L24P_1/A24 (io), D14 IO_L23N_1/A23 (io), D15 IO_L22N_1/A21 (io), D16 IO_L22P_1/A20 (io), E13 IO_L23P_1/A22 (io), E14 IO_L20P_1/A18 (io), E16 IO_L18P_1/A14 (io), F13 IO_L20N_1/A19 (io), F14 IO_L19N_1/A17 (io), F15 IO_L18N_1/A15 (io), F16 IO_L16N_1/A11 (io), G13 IO_L19P_1/A16 (io), G14 IO_L17N_1/A13 (io), G16 IO_L16P_1/A10 (io), H13 IO_L17P_1/A12 (io), H15 IO_L15P_1/IRDY1/RHCLK6 (io), H16 IO_L15N_1/RHCLK7 (io), J12 IO_L10P_1/A8 (io), J13 IO_L10N_1/A9 (io), J16 IO_L12N_1/TRDY1/RHCLK3 (io), K13 IO_L06N_1/A3 (io), K14 IO_L11N_1/RHCLK1 (io), K15 IO_L11P_1/RHCLK0 (io), K16 IO_L12P_1/RHCLK2 (io), L13 IO_L06P_1/A2 (io), L14 IO_L08P_1/A6 (io), L16 IO_L08N_1/A7 (io), M15 IO_L07P_1/A4 (io), M16 IO_L07N_1/A5 (io), N13 IO_L01P_1/HDC (io), N14 IO_L01N_1/LDC2 (io), N16 IO_L03N_1/A1 (io), P15 IO_L02N_1/LDC0 (io), P16 IO_L03P_1/A0 (io), R15 IO_L02P_1/LDC1 (io)
part C pins: N4 IO_L01P_2/M1 (io), N6 IO_L04P_2/VS1 (io), N8 IO_L08N_2/D4 (io), N9 IO_L11P_2/GCLK0 (io), N11 IO_L16N_2 (io), N12 IO_L19P_2 (io), P4 IO_L01N_2/M0 (io), P5 IO_L04N_2/VS0 (io), P7 IO_L08P_2/D5 (io), P8 IO_L10P_2/GCLK14 (io), P9 IO_L11N_2/GCLK1 (io), P10 IO_L14N_2/MOSI/CSI_B (io), P11 IO_L16P_2 (io), P12 IO_L17N_2/D3 (io), P13 IO_L19N_2 (io), R2 IO_L02P_2/M2 (io), R3 IO_L03P_2/RDWR_B (io), R5 IO_L05N_2 (io), R7 IO_L09P_2/GCLK12 (io), R9 IO_L12P_2/GCLK2 (io), R11 IO_L15N_2/DOUT (io), R13 IO_L18N_2/D1 (io), R14 IO_L20N_2/CCLK (io), T2 IO_L02N_2/CSO_B (io), T3 IO_L03N_2/VS2 (io), T4 IO_L05P_2 (io), T5 IO_L06P_2/D7 (io), T6 IO_L06N_2/D6 (io), T7 IO_L09N_2/GCLK13 (io), T8 IO_L10N_2/GCLK15 (io), T9 IO_L12N_2/GCLK3 (io), T10 IO_L14P_2 (io), T11 IO_L15P_2/AWAKE (io), T12 IO_L17P_2/INIT_B (io), T13 IO_L18P_2/D2 (io), T14 IO_L20P_2/D0/DIN/MISO (io)
part D pins: C1 IO_L01N_3 (io), C2 IO_L01P_3 (io), D1 IO_L03P_3 (io), D3 IO_L02N_3 (io), D4 IO_L02P_3 (io), E1 IO_L03N_3 (io), E2 IO_L05N_3 (io), E3 IO_L05P_3 (io), E4 IO_L04P_3 (io), F1 IO_L08P_3 (io), F3 IO_L07P_3 (io), F4 IO_L04N_3 (io), G1 IO_L08N_3/VREF_3 (io), G2 IO_L11P_3/LHCLK0 (io), G3 IO_L07N_3 (io), H1 IO_L11N_3/LHCLK1 (io), H3 IO_L12P_3/LHCLK2 (io), J1 IO_L14N_3/LHCLK5 (io), J2 IO_L14P_3/LHCLK4 (io), J3 IO_L12N_3/IRDY2/LHCLK3 (io), K1 IO_L15N_3/LHCLK7 (io), K3 IO_L15P_3/TRDY2/LHCLK6 (io), K4 IO_L18P_3 (io), L1 IO_L16P_3/VREF_3 (io), L2 IO_L16N_3 (io), L3 IO_L18N_3 (io), L4 IO_L19N_3 (io), M1 IO_L20P_3 (io), M3 IO_L19P_3 (io), M4 IO_L24N_3 (io), N1 IO_L20N_3 (io), N2 IO_L22P_3/VREF_3 (io), N3 IO_L24P_3 (io), P1 IO_L22N_3 (io), P2 IO_L23N_3 (io), R1 IO_L23P_3 (io)
part E pins: E6 IP_0 (in), G4 IP_3/VREF_3 (in), H12 IP_1/VREF_1 (in), J4 IP_3 (in), J5 IP_3/VREF_3 (in), J14 IP_1/VREF_1 (in), M7 IP_2/VREF_2 (in), M9 IP_2/VREF_2 (in), M11 IP_2/VREF_2 (in), M13 IP_1/VREF_1 (in), M14 IP_1/VREF_1 (in), N5 IP_2/VREF_2 (in), P6 IP_2/VREF_2 (in)
part F pins: A2 PROG_B (in), A15 TCK (in), B1 TDI (in), B2 TMS (in), B16 TDO (out), R16 SUSPEND (in), T15 DONE (io)
part G pins: B5 VCCO_0 (power), B9 VCCO_0 (power), B13 VCCO_0 (power), D2 VCCO_3 (power), D6 VCCAUX (power), E8 VCCO_0 (power), E11 VCCAUX (power), E15 VCCO_1 (power), F5 VCCAUX (power), F10 VCCINT (power), F12 VCCAUX (power), G7 VCCINT (power), G9 VCCINT (power), G11 VCCINT (power), H2 VCCO_3 (power), H4 VCCAUX (power), H6 VCCINT (power), H8 VCCINT (power), H10 VCCINT (power), H14 VCCAUX (power), J7 VCCINT (power), J9 VCCINT (power), J11 VCCINT (power), J15 VCCO_1 (power), K6 VCCINT (power), K8 VCCINT (power), K10 VCCINT (power), L5 VCCAUX (power), L7 VCCINT (power), L9 VCCINT (power), L12 VCCAUX (power), M2 VCCO_3 (power), M6 VCCAUX (power), M10 VCCAUX (power), N15 VCCO_1 (power), R4 VCCO_2 (power), R8 VCCO_2 (power), R12 VCCO_2 (power)
part H pins: A1 GND (power), A16 GND (power), B7 GND (power), B11 GND (power), C3 GND (power), C14 GND (power), E5 GND (power), E10 GND (power), E12 GND (power), F2 GND (power), F6 GND (power), F7 GND (power), F8 GND (power), F9 GND (power), F11 GND (power), G5 GND (power), G6 GND (power), G8 GND (power), G10 GND (power), G12 GND (power), G15 GND (power), H5 GND (power), H7 GND (power), H9 GND (power), H11 GND (power), J6 GND (power), J8 GND (power), J10 GND (power), K2 GND (power), K5 GND (power), K7 GND (power), K9 GND (power), K11 GND (power), K12 GND (power), L6 GND (power), L8 GND (power), L10 GND (power), L11 GND (power), L15 GND (power), M5 GND (power), M8 GND (power), M12 GND (power), N7 GND (power), N10 GND (power), P3 GND (power), P14 GND (power), R6 GND (power), R10 GND (power), T1 GND (power), T16 GND (power)
part A text: BANK 0
part B text: BANK 1
part C text: BANK 2
part D text: BANK 3

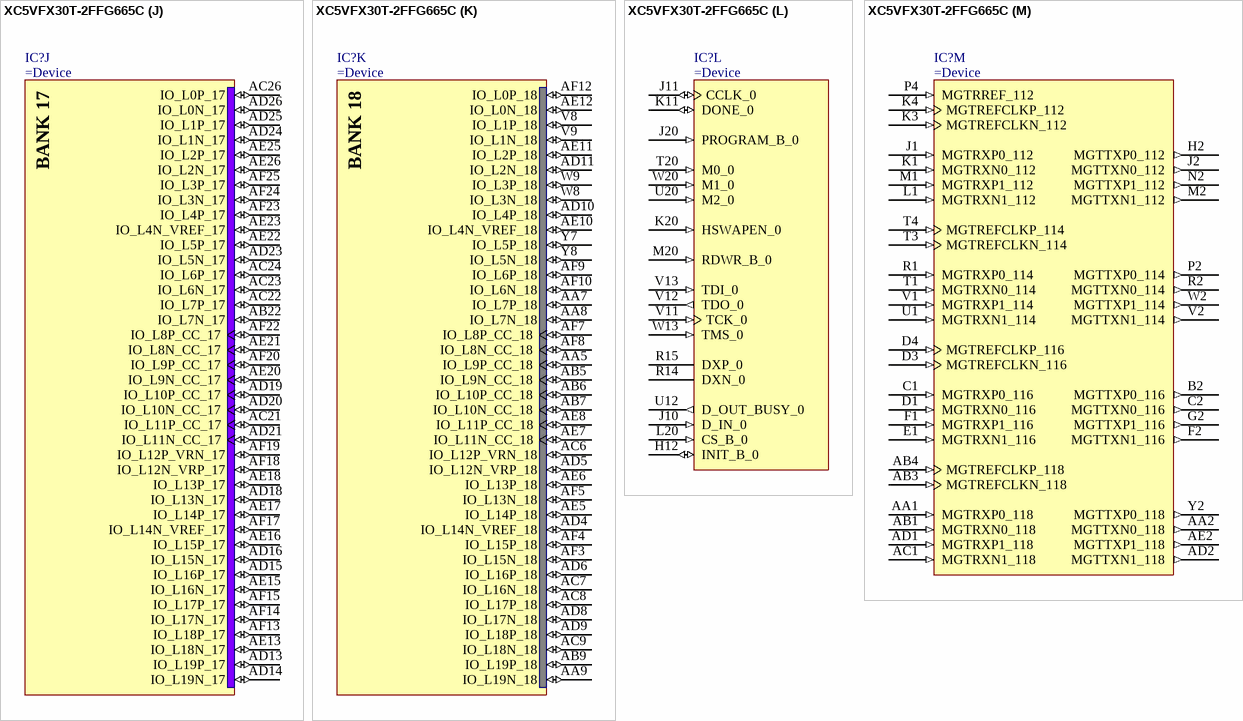
[diagram p144: symbol XC5VFX30T-2FFG665C]

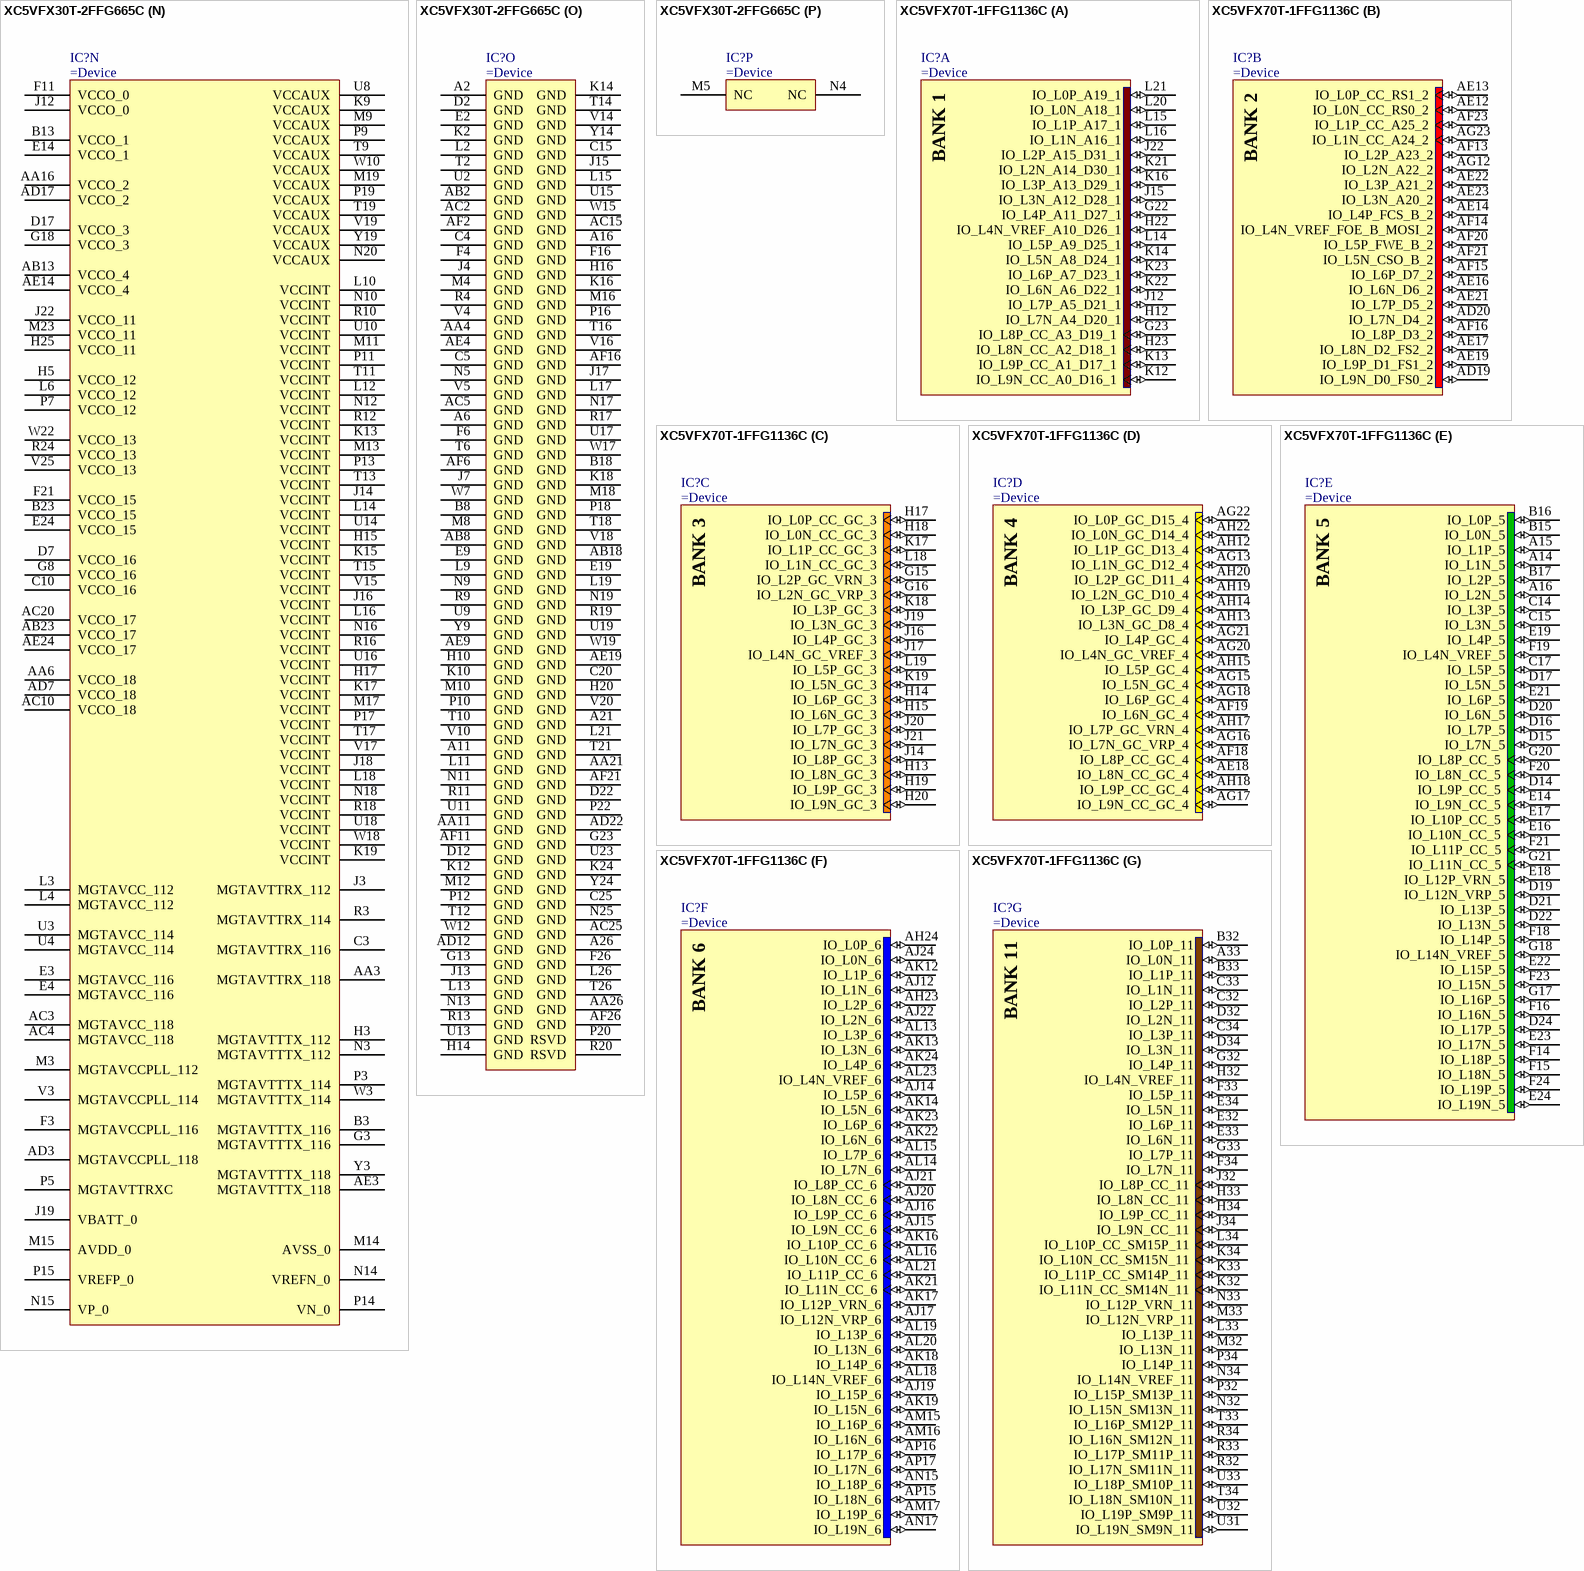
[diagram p145: symbols XC5VFX30T-2FFG665C to XC5VFX70T-1FFG1136C]

## XC5VFX30T-2FFG665C
designator IC?
Virtex-5 FXT Platform FPGA, 360 User I/Os, 665-Ball FFBGA, Speed Grade 2, Commercial Grade, Pb-Free
part A pins: F13 IO_L5P_A9_D25_1 (io), F14 IO_L3N_A12_D28_1 (io), F15 IO_L3P_A13_D29_1 (io), F17 IO_L2N_A14_D30_1 (io), F18 IO_L4P_A11_D27_1 (io), G10 IO_L9P_CC_A1_D17_1 (io), G11 IO_L7P_A5_D21_1 (io), G12 IO_L5N_A8_D24_1 (io), G14 IO_L1N_A16_1 (io), G15 IO_L0P_A19_1 (io), G16 IO_L0N_A18_1 (io), G17 IO_L2P_A15_D31_1 (io), G19 IO_L4N_VREF_A10_D26_1 (io), G20 IO_L8P_CC_A3_D19_1 (io), H9 IO_L9N_CC_A0_D16_1 (io), H11 IO_L7N_A4_D20_1 (io), H13 IO_L1P_A17_1 (io), H18 IO_L6P_A7_D23_1 (io), H19 IO_L6N_A6_D22_1 (io), H21 IO_L8N_CC_A2_D18_1 (io)
part B pins: AA10 IO_L2P_A23_2 (io), AA12 IO_L4N_VREF_FOE_B_MOSI_2 (io), AA13 IO_L6P_D7_2 (io), AA14 IO_L6N_D6_2 (io), AA15 IO_L9N_D0_FS0_2 (io), AA17 IO_L5P_FWE_B_2 (io), AA18 IO_L3P_A21_2 (io), AA19 IO_L1N_CC_A24_2 (io), W11 IO_L0P_CC_RS1_2 (io), W14 IO_L8N_D2_FS2_2 (io), W16 IO_L7N_D4_2 (io), Y10 IO_L0N_CC_RS0_2 (io), Y11 IO_L2N_A22_2 (io), Y12 IO_L4P_FCS_B_2 (io), Y13 IO_L8P_D3_2 (io), Y15 IO_L9P_D1_FS1_2 (io), Y16 IO_L7P_D5_2 (io), Y17 IO_L5N_CSO_B_2 (io), Y18 IO_L3N_A20_2 (io), Y20 IO_L1P_CC_A25_2 (io)
part C pins: D13 IO_L2N_GC_VRP_3 (io), D14 IO_L2P_GC_VRN_3 (io), D15 IO_L0P_CC_GC_3 (io), D16 IO_L1P_CC_GC_3 (io), D18 IO_L3N_GC_3 (io), E10 IO_L8P_GC_3 (io), E11 IO_L6N_GC_3 (io), E12 IO_L4N_GC_VREF_3 (io), E13 IO_L4P_GC_3 (io), E15 IO_L0N_CC_GC_3 (io), E16 IO_L1N_CC_GC_3 (io), E17 IO_L3P_GC_3 (io), E18 IO_L5P_GC_3 (io), E20 IO_L7P_GC_3 (io), E21 IO_L7N_GC_3 (io), F10 IO_L8N_GC_3 (io), F12 IO_L6P_GC_3 (io), F19 IO_L5N_GC_3 (io), F20 IO_L9P_GC_3 (io), G21 IO_L9N_GC_3 (io)
part D pins: AA20 IO_L0N_GC_D14_4 (io), AB10 IO_L1P_GC_D13_4 (io), AB11 IO_L1N_GC_D12_4 (io), AB12 IO_L3N_GC_D8_4 (io), AB14 IO_L7P_GC_VRN_4 (io), AB15 IO_L9P_CC_GC_4 (io), AB16 IO_L8N_CC_GC_4 (io), AB17 IO_L6N_GC_4 (io), AB19 IO_L4P_GC_4 (io), AB20 IO_L2N_GC_D10_4 (io), AB21 IO_L2P_GC_D11_4 (io), AC11 IO_L3P_GC_D9_4 (io), AC12 IO_L5P_GC_4 (io), AC13 IO_L5N_GC_4 (io), AC14 IO_L7N_GC_VRP_4 (io), AC16 IO_L9N_CC_GC_4 (io), AC17 IO_L8P_CC_GC_4 (io), AC18 IO_L6P_GC_4 (io), AC19 IO_L4N_GC_VREF_4 (io), Y21 IO_L0P_GC_D15_4 (io)
part E pins: E22 IO_L4N_VREF_11 (io), E23 IO_L4P_11 (io), E25 IO_L0N_11 (io), E26 IO_L0P_11 (io), F22 IO_L5N_11 (io), F23 IO_L5P_11 (io), F24 IO_L3P_11 (io), F25 IO_L1P_11 (io), G22 IO_L6P_11 (io), G24 IO_L3N_11 (io), G25 IO_L2N_11 (io), G26 IO_L1N_11 (io), H22 IO_L6N_11 (io), H23 IO_L7P_11 (io), H24 IO_L12P_VRN_11 (io), H26 IO_L2P_11 (io), J21 IO_L8P_CC_11 (io), J23 IO_L7N_11 (io), J24 IO_L12N_VRP_11 (io), J25 IO_L13P_11 (io), J26 IO_L13N_11 (io), K21 IO_L8N_CC_11 (io), K22 IO_L9P_CC_11 (io), K23 IO_L9N_CC_11 (io), K25 IO_L15N_SM13N_11 (io), K26 IO_L14P_11 (io), L22 IO_L10N_CC_SM15N_11 (io), L23 IO_L10P_CC_SM15P_11 (io), L24 IO_L15P_SM13P_11 (io), L25 IO_L14N_VREF_11 (io), M21 IO_L11P_CC_SM14P_11 (io), M22 IO_L19N_SM9N_11 (io), M24 IO_L17N_SM11N_11 (io), M25 IO_L17P_SM11P_11 (io), M26 IO_L16N_SM12N_11 (io), N21 IO_L11N_CC_SM14N_11 (io), N22 IO_L19P_SM9P_11 (io), N23 IO_L18N_SM10N_11 (io), N24 IO_L18P_SM10P_11 (io), N26 IO_L16P_SM12P_11 (io)
part F pins: F5 IO_L3N_12 (io), G4 IO_L5P_12 (io), G5 IO_L3P_12 (io), G6 IO_L1P_12 (io), H4 IO_L5N_12 (io), H6 IO_L1N_12 (io), J5 IO_L7P_12 (io), J6 IO_L7N_12 (io), K5 IO_L9P_CC_12 (io), K6 IO_L10P_CC_12 (io), K7 IO_L10N_CC_12 (io), K8 IO_L12P_VRN_12 (io), L5 IO_L9N_CC_12 (io), L7 IO_L12N_VRP_12 (io), L8 IO_L14N_VREF_12 (io), M6 IO_L17P_12 (io), M7 IO_L14P_12 (io), N6 IO_L16N_12 (io), N7 IO_L17N_12 (io), N8 IO_L18P_12 (io), P6 IO_L16P_12 (io), P8 IO_L18N_12 (io), R5 IO_L13N_12 (io), R6 IO_L15P_12 (io), R7 IO_L19N_12 (io), R8 IO_L19P_12 (io), T5 IO_L13P_12 (io), T7 IO_L15N_12 (io), T8 IO_L8N_CC_12 (io), U5 IO_L11N_CC_12 (io), U6 IO_L11P_CC_12 (io), U7 IO_L8P_CC_12 (io), V6 IO_L6P_12 (io), V7 IO_L6N_12 (io), W4 IO_L2N_12 (io), W5 IO_L4P_12 (io), W6 IO_L4N_VREF_12 (io), Y4 IO_L2P_12 (io), Y5 IO_L0N_12 (io), Y6 IO_L0P_12 (io)
part G pins: AA22 IO_L10P_CC_13 (io), AA23 IO_L15N_13 (io), AA24 IO_L14N_VREF_13 (io), AA25 IO_L13P_13 (io), AB24 IO_L15P_13 (io), AB25 IO_L14P_13 (io), AB26 IO_L13N_13 (io), P21 IO_L16P_13 (io), P23 IO_L2N_SM6N_13 (io), P24 IO_L2P_SM6P_13 (io), P25 IO_L1P_SM7P_13 (io), P26 IO_L0P_SM8P_13 (io), R21 IO_L16N_13 (io), R22 IO_L3N_SM5N_13 (io), R23 IO_L3P_SM5P_13 (io), R25 IO_L1N_SM7N_13 (io), R26 IO_L0N_SM8N_13 (io), T22 IO_L17P_13 (io), T23 IO_L6N_SM3N_13 (io), T24 IO_L6P_SM3P_13 (io), T25 IO_L5N_SM4N_13 (io), U21 IO_L18P_13 (io), U22 IO_L17N_13 (io), U24 IO_L7P_SM2P_13 (io), U25 IO_L5P_SM4P_13 (io), U26 IO_L4P_13 (io), V21 IO_L19P_13 (io), V22 IO_L18N_13 (io), V23 IO_L9N_CC_SM0N_13 (io), V24 IO_L7N_SM2N_13 (io), V26 IO_L4N_VREF_13 (io), W21 IO_L19N_13 (io), W23 IO_L11N_CC_13 (io), W24 IO_L9P_CC_SM0P_13 (io), W25 IO_L8N_CC_SM1N_13 (io), W26 IO_L8P_CC_SM1P_13 (io), Y22 IO_L10N_CC_13 (io), Y23 IO_L11P_CC_13 (io), Y25 IO_L12N_VRP_13 (io), Y26 IO_L12P_VRN_13 (io)
part H pins: A13 IO_L1N_15 (io), A14 IO_L2P_15 (io), A15 IO_L2N_15 (io), A17 IO_L5N_15 (io), A18 IO_L6P_15 (io), A19 IO_L6N_15 (io), A20 IO_L8P_CC_15 (io), A22 IO_L13N_15 (io), A23 IO_L14P_15 (io), A24 IO_L14N_VREF_15 (io), A25 IO_L17N_15 (io), B14 IO_L1P_15 (io), B15 IO_L3P_15 (io), B16 IO_L4P_15 (io), B17 IO_L5P_15 (io), B19 IO_L7P_15 (io), B20 IO_L8N_CC_15 (io), B21 IO_L11P_CC_15 (io), B22 IO_L13P_15 (io), B24 IO_L15P_15 (io), B25 IO_L17P_15 (io), B26 IO_L18P_15 (io), C13 IO_L0P_15 (io), C14 IO_L0N_15 (io), C16 IO_L3N_15 (io), C17 IO_L4N_VREF_15 (io), C18 IO_L7N_15 (io), C19 IO_L9P_CC_15 (io), C21 IO_L11N_CC_15 (io), C22 IO_L12N_VRP_15 (io), C23 IO_L15N_15 (io), C24 IO_L16N_15 (io), C26 IO_L18N_15 (io), D19 IO_L9N_CC_15 (io), D20 IO_L10N_CC_15 (io), D21 IO_L10P_CC_15 (io), D23 IO_L12P_VRN_15 (io), D24 IO_L16P_15 (io), D25 IO_L19N_15 (io), D26 IO_L19P_15 (io)
part I pins: A3 IO_L14N_VREF_16 (io), A4 IO_L14P_16 (io), A5 IO_L12N_VRP_16 (io), A7 IO_L10P_CC_16 (io), A8 IO_L4N_VREF_16 (io), A9 IO_L4P_16 (io), A10 IO_L13N_16 (io), A12 IO_L15N_16 (io), B4 IO_L16P_16 (io), B5 IO_L16N_16 (io), B6 IO_L12P_VRN_16 (io), B7 IO_L10N_CC_16 (io), B9 IO_L6P_16 (io), B10 IO_L13P_16 (io), B11 IO_L15P_16 (io), B12 IO_L17P_16 (io), C6 IO_L9N_CC_16 (io), C7 IO_L9P_CC_16 (io), C8 IO_L6N_16 (io), C9 IO_L8P_CC_16 (io), C11 IO_L19P_16 (io), C12 IO_L17N_16 (io), D5 IO_L18P_16 (io), D6 IO_L7N_16 (io), D8 IO_L8N_CC_16 (io), D9 IO_L11P_CC_16 (io), D10 IO_L11N_CC_16 (io), D11 IO_L19N_16 (io), E5 IO_L18N_16 (io), E6 IO_L7P_16 (io), E7 IO_L5N_16 (io), E8 IO_L5P_16 (io), F7 IO_L1P_16 (io), F8 IO_L1N_16 (io), F9 IO_L2P_16 (io), G7 IO_L0N_16 (io), G9 IO_L2N_16 (io), H7 IO_L0P_16 (io), H8 IO_L3P_16 (io), J8 IO_L3N_16 (io)
part J pins: AB22 IO_L7N_17 (io), AC21 IO_L11P_CC_17 (io), AC22 IO_L7P_17 (io), AC23 IO_L6N_17 (io), AC24 IO_L6P_17 (io), AC26 IO_L0P_17 (io), AD13 IO_L19P_17 (io), AD14 IO_L19N_17 (io), AD15 IO_L16P_17 (io), AD16 IO_L15N_17 (io), AD18 IO_L13N_17 (io), AD19 IO_L10P_CC_17 (io), AD20 IO_L10N_CC_17 (io), AD21 IO_L11N_CC_17 (io), AD23 IO_L5N_17 (io), AD24 IO_L1N_17 (io), AD25 IO_L1P_17 (io), AD26 IO_L0N_17 (io), AE13 IO_L18N_17 (io), AE15 IO_L16N_17 (io), AE16 IO_L15P_17 (io), AE17 IO_L14P_17 (io), AE18 IO_L13P_17 (io), AE20 IO_L9N_CC_17 (io), AE21 IO_L8N_CC_17 (io), AE22 IO_L5P_17 (io), AE23 IO_L4N_VREF_17 (io), AE25 IO_L2P_17 (io), AE26 IO_L2N_17 (io), AF13 IO_L18P_17 (io), AF14 IO_L17N_17 (io), AF15 IO_L17P_17 (io), AF17 IO_L14N_VREF_17 (io), AF18 IO_L12N_VRP_17 (io), AF19 IO_L12P_VRN_17 (io), AF20 IO_L9P_CC_17 (io), AF22 IO_L8P_CC_17 (io), AF23 IO_L4P_17 (io), AF24 IO_L3N_17 (io), AF25 IO_L3P_17 (io)
part K pins: AA5 IO_L9P_CC_18 (io), AA7 IO_L7P_18 (io), AA8 IO_L7N_18 (io), AA9 IO_L19N_18 (io), AB5 IO_L9N_CC_18 (io), AB6 IO_L10P_CC_18 (io), AB7 IO_L10N_CC_18 (io), AB9 IO_L19P_18 (io), AC6 IO_L12P_VRN_18 (io), AC7 IO_L16N_18 (io), AC8 IO_L17P_18 (io), AC9 IO_L18N_18 (io), AD4 IO_L14N_VREF_18 (io), AD5 IO_L12N_VRP_18 (io), AD6 IO_L16P_18 (io), AD8 IO_L17N_18 (io), AD9 IO_L18P_18 (io), AD10 IO_L4P_18 (io), AD11 IO_L2N_18 (io), AE5 IO_L14P_18 (io), AE6 IO_L13P_18 (io), AE7 IO_L11N_CC_18 (io), AE8 IO_L11P_CC_18 (io), AE10 IO_L4N_VREF_18 (io), AE11 IO_L2P_18 (io), AE12 IO_L0N_18 (io), AF3 IO_L15N_18 (io), AF4 IO_L15P_18 (io), AF5 IO_L13N_18 (io), AF7 IO_L8P_CC_18 (io), AF8 IO_L8N_CC_18 (io), AF9 IO_L6P_18 (io), AF10 IO_L6N_18 (io), AF12 IO_L0P_18 (io), V8 IO_L1P_18 (io), V9 IO_L1N_18 (io), W8 IO_L3N_18 (io), W9 IO_L3P_18 (io), Y7 IO_L5P_18 (io), Y8 IO_L5N_18 (io)
part L pins: H12 INIT_B_0 (io), J10 D_IN_0 (in), J11 CCLK_0 (io), J20 PROGRAM_B_0 (in), K11 DONE_0 (io), K20 HSWAPEN_0 (in), L20 CS_B_0 (in), M20 RDWR_B_0 (in), R14 DXN_0, R15 DXP_0, T20 M0_0 (in), U12 D_OUT_BUSY_0 (out), U20 M2_0 (in), V11 TCK_0 (in), V12 TDO_0 (out), V13 TDI_0 (in), W13 TMS_0 (in), W20 M1_0 (in)
part M pins: AA1 MGTRXP0_118 (in), AA2 MGTTXN0_118 (out), AB1 MGTRXN0_118 (in), AB3 MGTREFCLKN_118 (in), AB4 MGTREFCLKP_118 (in), AC1 MGTRXN1_118 (in), AD1 MGTRXP1_118 (in), AD2 MGTTXN1_118 (out), AE2 MGTTXP1_118 (out), B2 MGTTXP0_116 (out), C1 MGTRXP0_116 (in), C2 MGTTXN0_116 (out), D1 MGTRXN0_116 (in), D3 MGTREFCLKN_116 (in), D4 MGTREFCLKP_116 (in), E1 MGTRXN1_116 (in), F1 MGTRXP1_116 (in), F2 MGTTXN1_116 (out), G2 MGTTXP1_116 (out), H2 MGTTXP0_112 (out), J1 MGTRXP0_112 (in), J2 MGTTXN0_112 (out), K1 MGTRXN0_112 (in), K3 MGTREFCLKN_112 (in), K4 MGTREFCLKP_112 (in), L1 MGTRXN1_112 (in), M1 MGTRXP1_112 (in), M2 MGTTXN1_112 (out), N2 MGTTXP1_112 (out), P2 MGTTXP0_114 (out), P4 MGTRREF_112 (in), R1 MGTRXP0_114 (in), R2 MGTTXN0_114 (out), T1 MGTRXN0_114 (in), T3 MGTREFCLKN_114 (in), T4 MGTREFCLKP_114 (in), U1 MGTRXN1_114 (in), V1 MGTRXP1_114 (in), V2 MGTTXN1_114 (out), W2 MGTTXP1_114 (out), Y2 MGTTXP0_118 (out)
part N pins: AA3 MGTAVTTRX_118 (power), AA6 VCCO_18 (power), AA16 VCCO_2 (power), AB13 VCCO_4 (power), AB23 VCCO_17 (power), AC3 MGTAVCC_118 (power), AC4 MGTAVCC_118 (power), AC10 VCCO_18 (power), AC20 VCCO_17 (power), AD3 MGTAVCCPLL_118 (power), AD7 VCCO_18 (power), AD17 VCCO_2 (power), AE3 MGTAVTTTX_118 (power), AE14 VCCO_4 (power), AE24 VCCO_17 (power), B3 MGTAVTTTX_116 (power), B13 VCCO_1 (power), B23 VCCO_15 (power), C3 MGTAVTTRX_116 (power), C10 VCCO_16 (power), D7 VCCO_16 (power), D17 VCCO_3 (power), E3 MGTAVCC_116 (power), E4 MGTAVCC_116 (power), E14 VCCO_1 (power), E24 VCCO_15 (power), F3 MGTAVCCPLL_116 (power), F11 VCCO_0 (power), F21 VCCO_15 (power), G3 MGTAVTTTX_116 (power), G8 VCCO_16 (power), G18 VCCO_3 (power), H3 MGTAVTTTX_112 (power), H5 VCCO_12 (power), H15 VCCINT (power), H17 VCCINT (power), H25 VCCO_11 (power), J3 MGTAVTTRX_112 (power), J12 VCCO_0 (power), J14 VCCINT (power), J16 VCCINT (power), J18 VCCINT (power), J19 VBATT_0 (power), J22 VCCO_11 (power), K9 VCCAUX (power), K13 VCCINT (power), K15 VCCINT (power), K17 VCCINT (power), K19 VCCINT (power), L3 MGTAVCC_112 (power), L4 MGTAVCC_112 (power), L6 VCCO_12 (power), L10 VCCINT (power), L12 VCCINT (power), L14 VCCINT (power), L16 VCCINT (power), L18 VCCINT (power), M3 MGTAVCCPLL_112 (power), M9 VCCAUX (power), M11 VCCINT (power), M13 VCCINT (power), M14 AVSS_0 (power), M15 AVDD_0 (power), M17 VCCINT (power), M19 VCCAUX (power), M23 VCCO_11 (power), N3 MGTAVTTTX_112 (power), N10 VCCINT (power), N12 VCCINT (power), N14 VREFN_0 (power), N15 VP_0 (power), N16 VCCINT (power), N18 VCCINT (power), N20 VCCAUX (power), P3 MGTAVTTTX_114 (power), P5 MGTAVTTRXC (power), P7 VCCO_12 (power), P9 VCCAUX (power), P11 VCCINT (power), P13 VCCINT (power), P14 VN_0 (power), P15 VREFP_0 (power), P17 VCCINT (power), P19 VCCAUX (power), R3 MGTAVTTRX_114 (power), R10 VCCINT (power), R12 VCCINT (power), R16 VCCINT (power), R18 VCCINT (power), R24 VCCO_13 (power), T9 VCCAUX (power), T11 VCCINT (power), T13 VCCINT (power), T15 VCCINT (power), T17 VCCINT (power), T19 VCCAUX (power), U3 MGTAVCC_114 (power), U4 MGTAVCC_114 (power), U8 VCCAUX (power), U10 VCCINT (power), U14 VCCINT (power), U16 VCCINT (power), U18 VCCINT (power), V3 MGTAVCCPLL_114 (power), V15 VCCINT (power), V17 VCCINT (power), V19 VCCAUX (power), V25 VCCO_13 (power), W3 MGTAVTTTX_114 (power), W10 VCCAUX (power), W18 VCCINT (power), W22 VCCO_13 (power), Y3 MGTAVTTTX_118 (power), Y19 VCCAUX (power)
part O pins: A2 GND (power), A6 GND (power), A11 GND (power), A16 GND (power), A21 GND (power), A26 GND (power), AA4 GND (power), AA11 GND (power), AA21 GND (power), AA26 GND (power), AB2 GND (power), AB8 GND (power), AB18 GND (power), AC2 GND (power), AC5 GND (power), AC15 GND (power), AC25 GND (power), AD12 GND (power), AD22 GND (power), AE4 GND (power), AE9 GND (power), AE19 GND (power), AF2 GND (power), AF6 GND (power), AF11 GND (power), AF16 GND (power), AF21 GND (power), AF26 GND (power), B8 GND (power), B18 GND (power), C4 GND (power), C5 GND (power), C15 GND (power), C20 GND (power), C25 GND (power), D2 GND (power), D12 GND (power), D22 GND (power), E2 GND (power), E9 GND (power), E19 GND (power), F4 GND (power), F6 GND (power), F16 GND (power), F26 GND (power), G13 GND (power), G23 GND (power), H10 GND (power), H14 GND (power), H16 GND (power), H20 GND (power), J4 GND (power), J7 GND (power), J13 GND (power), J15 GND (power), J17 GND (power), K2 GND (power), K10 GND (power), K12 GND (power), K14 GND (power), K16 GND (power), K18 GND (power), K24 GND (power), L2 GND (power), L9 GND (power), L11 GND (power), L13 GND (power), L15 GND (power), L17 GND (power), L19 GND (power), L21 GND (power), L26 GND (power), M4 GND (power), M8 GND (power), M10 GND (power), M12 GND (power), M16 GND (power), M18 GND (power), N5 GND (power), N9 GND (power), N11 GND (power), N13 GND (power), N17 GND (power), N19 GND (power), N25 GND (power), P10 GND (power), P12 GND (power), P16 GND (power), P18 GND (power), P20 RSVD, P22 GND (power), R4 GND (power), R9 GND (power), R11 GND (power), R13 GND (power), R17 GND (power), R19 GND (power), R20 RSVD, T2 GND (power), T6 GND (power), T10 GND (power), T12 GND (power), T14 GND (power), T16 GND (power), T18 GND (power), T21 GND (power), T26 GND (power), U2 GND (power), U9 GND (power), U11 GND (power), U13 GND (power), U15 GND (power), U17 GND (power), U19 GND (power), U23 GND (power), V4 GND (power), V5 GND (power), V10 GND (power), V14 GND (power), V16 GND (power), V18 GND (power), V20 GND (power), W7 GND (power), W12 GND (power), W15 GND (power), W17 GND (power), W19 GND (power), Y9 GND (power), Y14 GND (power), Y24 GND (power)
part P pins: M5 NC, N4 NC
part A text: BANK 1
part B text: BANK 2
part C text: BANK 3
part D text: BANK 4
part E text: BANK 11
part F text: BANK 12
part G text: BANK 13
part H text: BANK 15
part I text: BANK 16
part J text: BANK 17
part K text: BANK 18

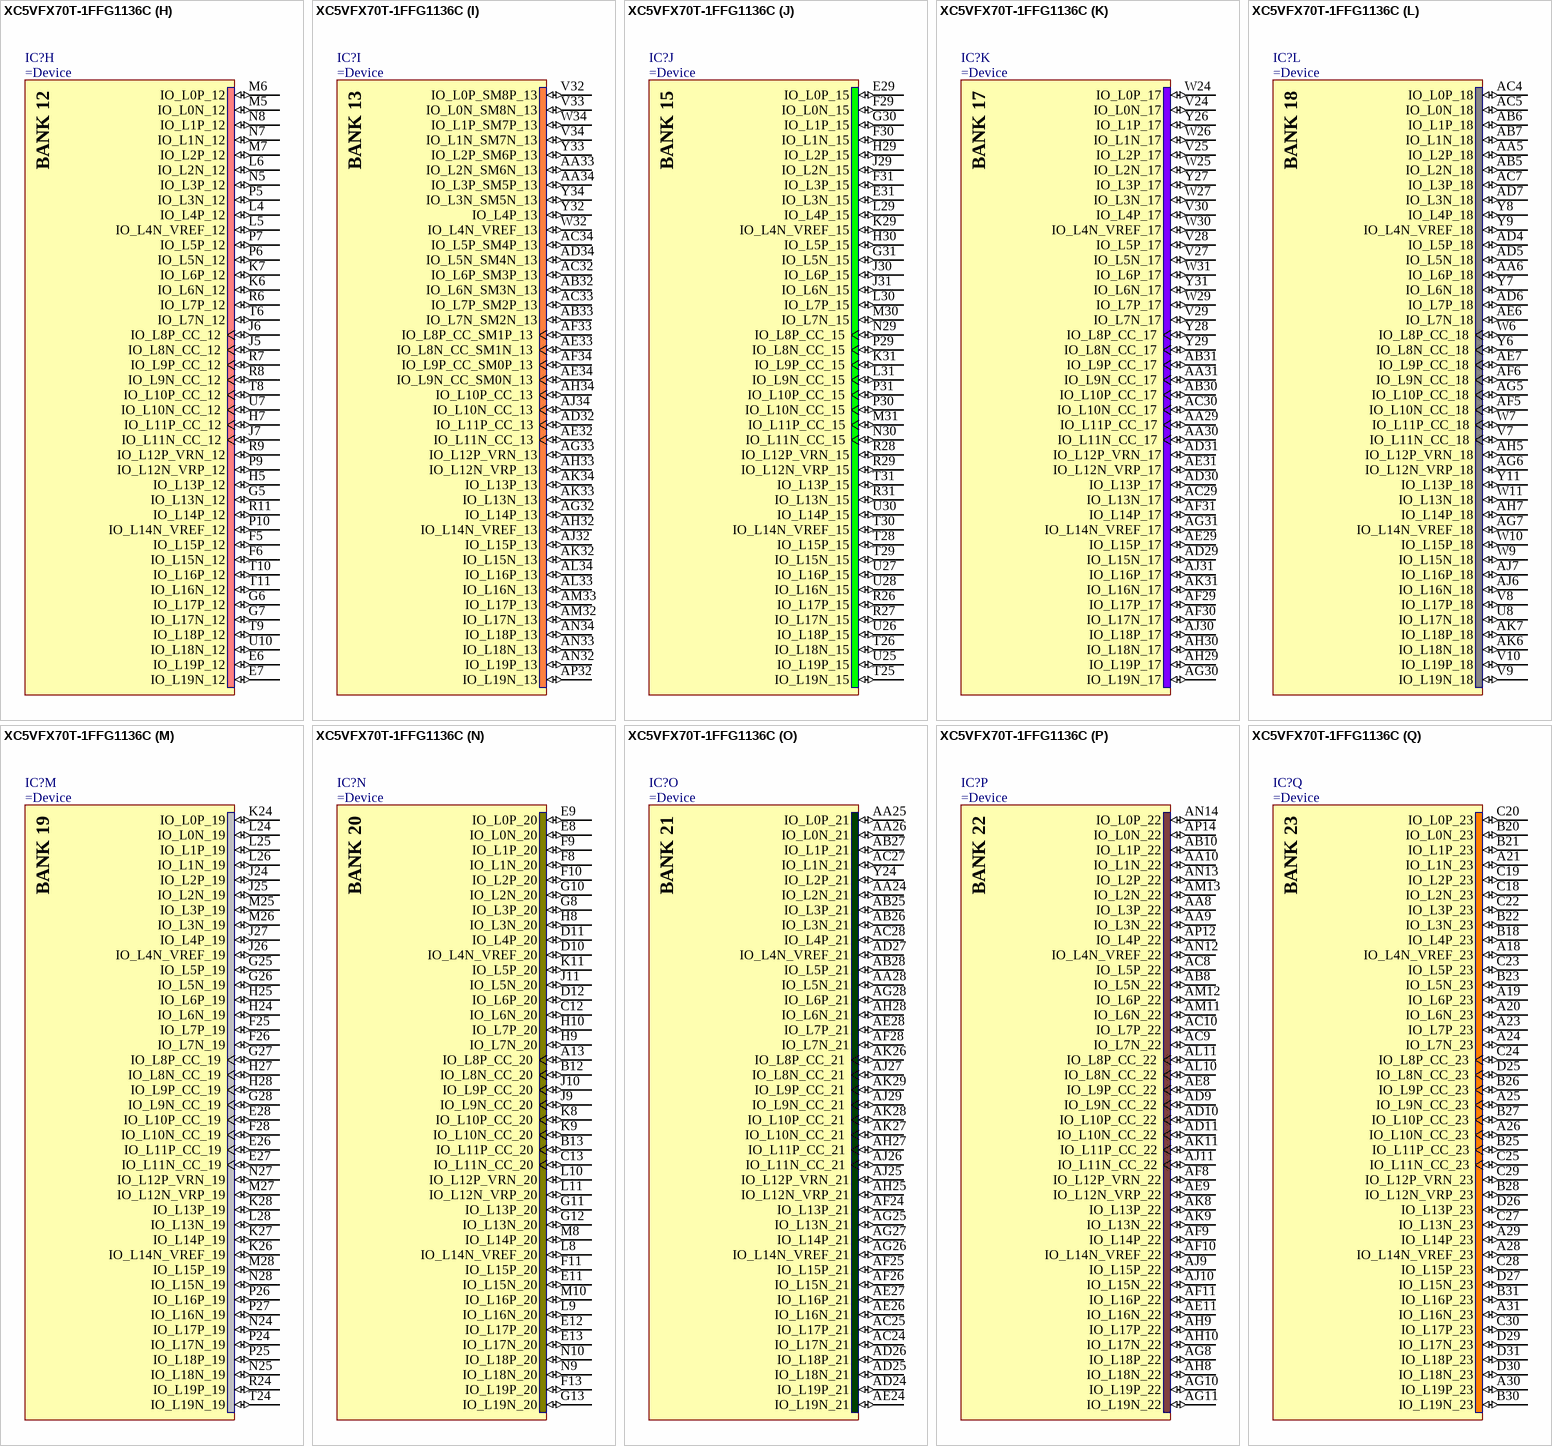
[diagram p146: symbol XC5VFX70T-1FFG1136C]

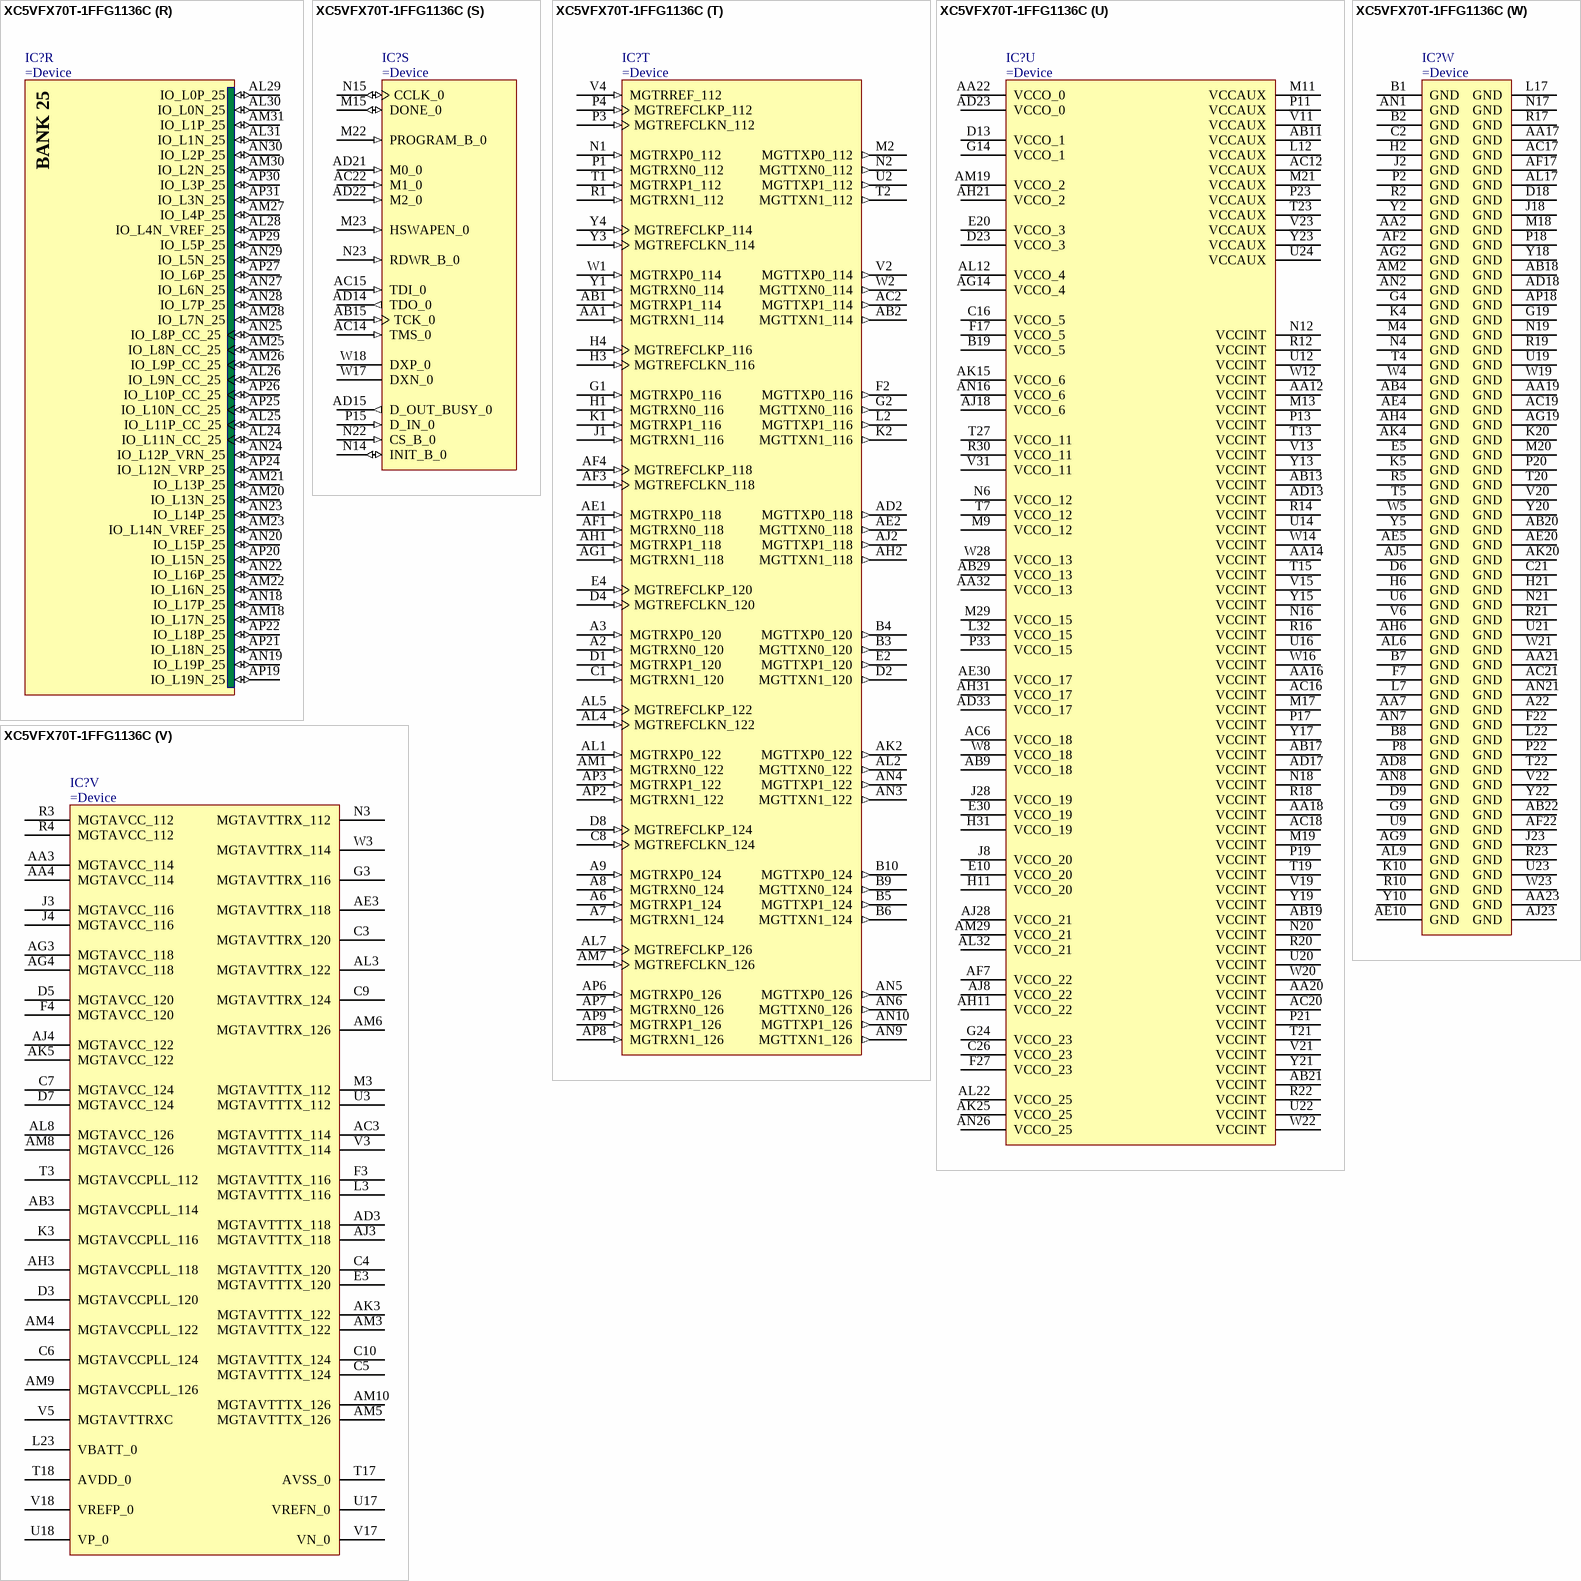
[diagram p147: symbol XC5VFX70T-1FFG1136C]

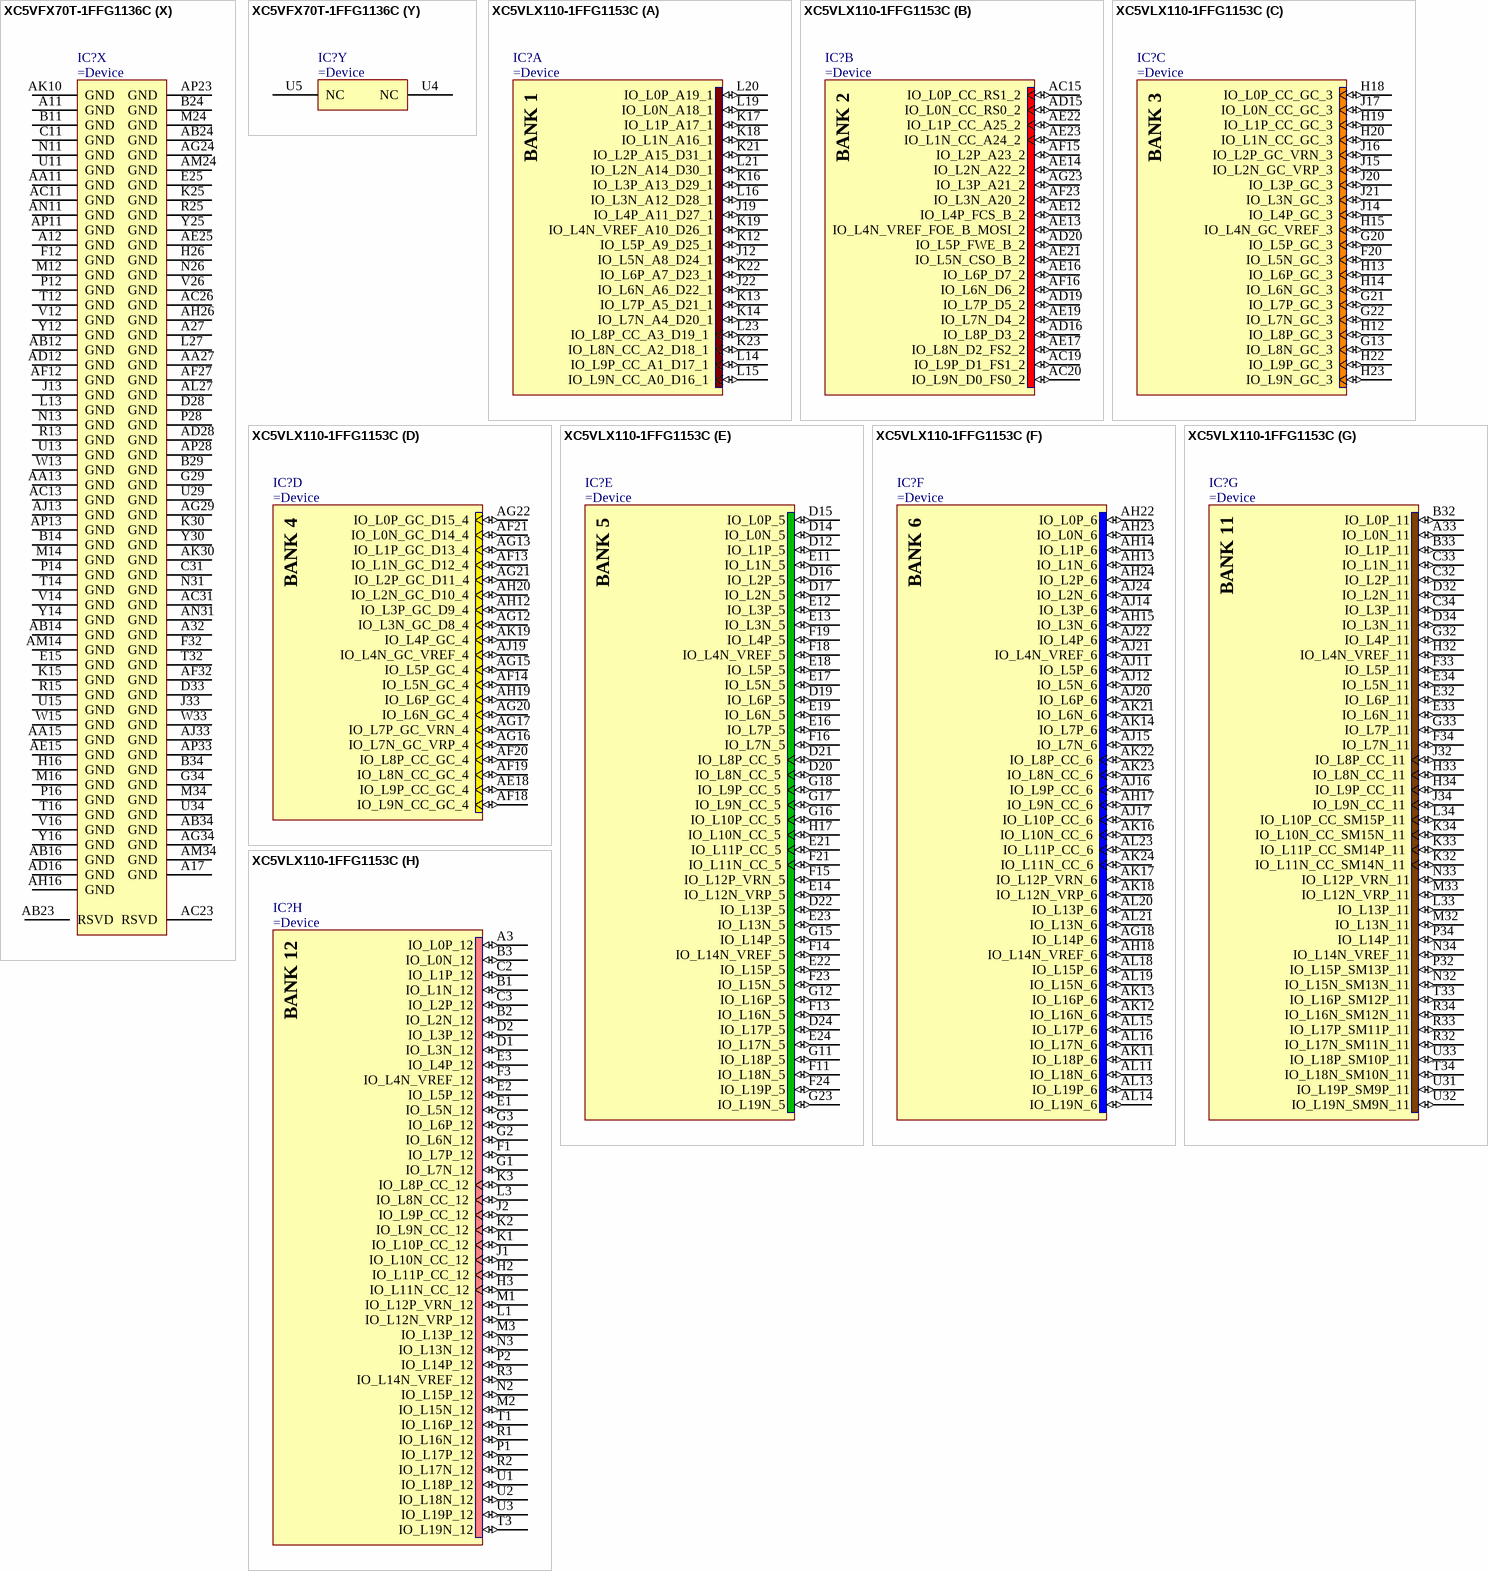
[diagram p148: symbols XC5VFX70T-1FFG1136C to XC5VLX110-1FFG1153C]